# Altium schematic symbol library 常用集成电路.SchLib: 294 symbols (part 3 of 5)
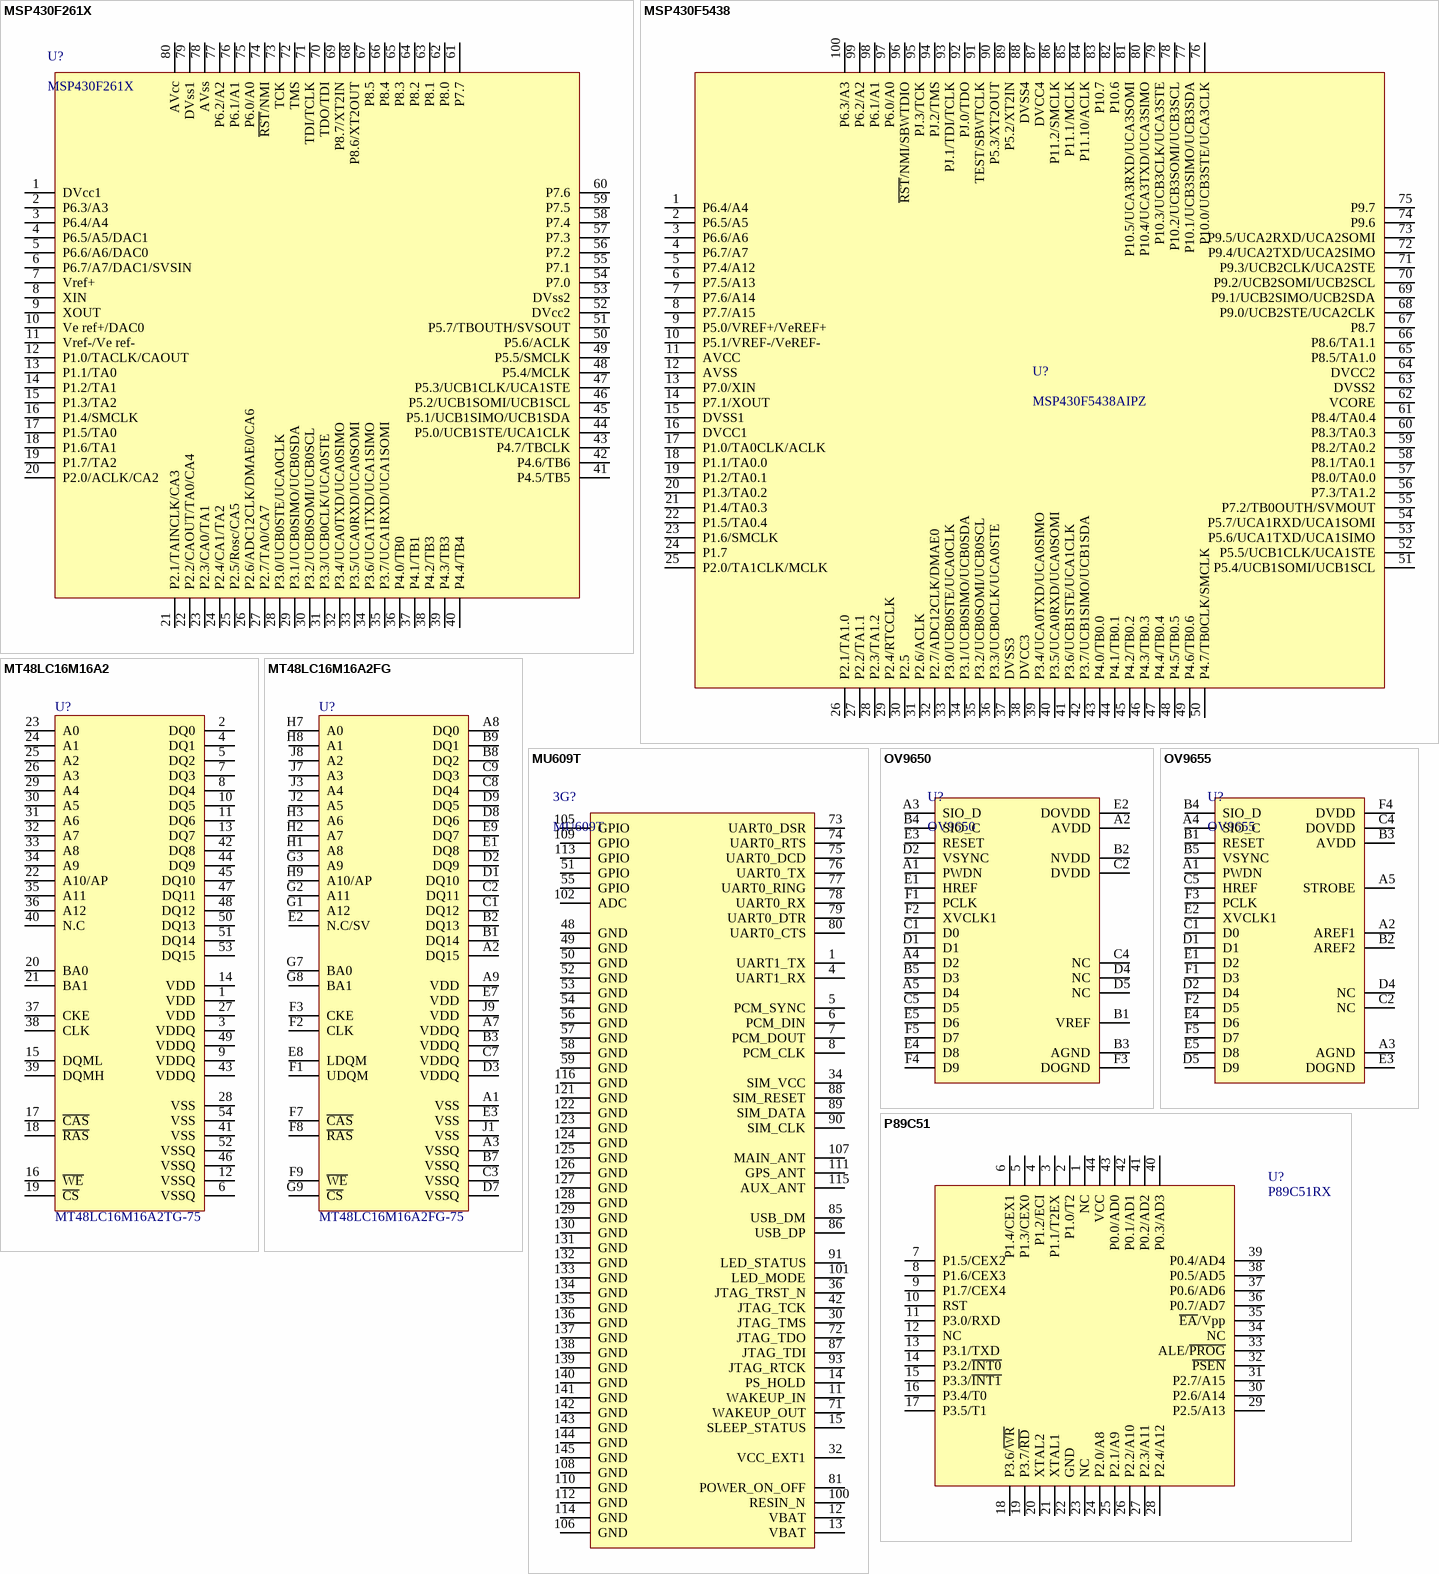
[diagram p40: symbols MSP430F261X to P89C51]

## MU609T
designator 3G?
华为车规3G模块
footprint MU609T (Footprint not found)
pins: 1 UART1_TX, 4 UART1_RX, 5 PCM_SYNC, 6 PCM_DIN, 7 PCM_DOUT, 8 PCM_CLK, 11 WAKEUP_IN, 12 VBAT, 13 VBAT, 14 PS_HOLD, 15 SLEEP_STATUS, 30 JTAG_TMS, 32 VCC_EXT1, 34 SIM_VCC, 36 JTAG_TRST_N, 42 JTAG_TCK, 48 GND, 49 GND, 50 GND, 51 GPIO, 52 GND, 53 GND, 54 GND, 55 GPIO, 56 GND, 57 GND, 58 GND, 59 GND, 71 WAKEUP_OUT, 72 JTAG_TDO, 73 UART0_DSR, 74 UART0_RTS, 75 UART0_DCD, 76 UART0_TX, 77 UART0_RING, 78 UART0_RX, 79 UART0_DTR, 80 UART0_CTS, 81 POWER_ON_OFF, 85 USB_DM, 86 USB_DP, 87 JTAG_TDI, 88 SIM_RESET, 89 SIM_DATA, 90 SIM_CLK, 91 LED_STATUS, 93 JTAG_RTCK, 100 RESIN_N, 101 LED_MODE, 102 ADC, 105 GPIO, 106 GND, 107 MAIN_ANT, 108 GND, 109 GPIO, 110 GND, 111 GPS_ANT, 112 GND, 113 GPIO, 114 GND, 115 AUX_ANT, 116 GND, 121 GND, 122 GND, 123 GND, 124 GND, 125 GND, 126 GND, 127 GND, 128 GND, 129 GND, 130 GND, 131 GND, 132 GND, 133 GND, 134 GND, 135 GND, 136 GND, 137 GND, 138 GND, 139 GND, 140 GND, 141 GND, 142 GND, 143 GND, 144 GND, 145 GND

## OV9650
designator U?
footprint BGA80P5095X5715-28 (BGA0.8X0.8)
pins: A1 PWDN, A2 AVDD, A3 SIO_D, A4 D2, A5 D4, B1 VREF, B2 NVDD, B3 AGND, B4 SIO_C, B5 D3, C1 D0, C2 DVDD, C4 NC, C5 D5, D1, D2 VSYNC, D4 NC, D5 NC, E1 HREF, E2 DOVDD, E3 RESET, E4 D8, E5 D6, F1 PCLK, F2 XVCLK1, F3 DOGND, F4 D9, F5 D7

## OV9655
designator U?
OV9655/OV9155
footprint BGA80P5145X6145-28 (BGA0.8X0.8)
pins: A1 PWDN, A2 AREF1, A3 AGND, A4 SIO_C, A5 STROBE, B1 RESET, B2 AREF2, B3 AVDD, B4 SIO_D, B5 VSYNC, C1 D0, C2 NC, C4 DOVDD, C5 HREF, D1, D2 D4, D4 NC, D5 D9, E1 D2, E2 XVCLK1, E3 DOGND, E4 D6, E5 D8, F1 D3, F2 D5, F3 PCLK, F4 DVDD, F5 D7

## P89C51
designator U?, comment P89C51RX
footprint PLCC-44AN (Leaded Chip Carrier, 44-Leads, Body 16.6x16.6mm, Pitch 1.27mm, IPC Medium Density)
pins: 1 NC, 2 P1.0/T2, 3 P1.1/T2EX, 4 P1.2/ECI, 5 P1.3/CEX0, 6 P1.4/CEX1, 7 P1.5/CEX2, 8 P1.6/CEX3, 9 P1.7/CEX4, 10 RST, 11 P3.0/RXD, 12 NC, 13 P3.1/TXD, 14 P3.2/~{INT0}, 15 P3.3/~{INT1}, 16 P3.4/T0, 17 P3.5/T1, 18 P3.6/~{WR}, 19 P3.7/~{RD}, 20 XTAL2, 21 XTAL1, 22 GND, 23 NC, 24 P2.0/A8, 25 P2.1/A9, 26 P2.2/A10, 27 P2.3/A11, 28 P2.4/A12, 29 P2.5/A13, 30 P2.6/A14, 31 P2.7/A15, 32 ~{PSEN}, 33 ALE/~{PROG}, 34 NC, 35 ~{EA}/Vpp, 36 P0.7/AD7, 37 P0.6/AD6, 38 P0.5/AD5, 39 P0.4/AD4, 40 P0.3/AD3, 41 P0.2/AD2, 42 P0.1/AD1, 43 P0.0/AD0, 44 VCC

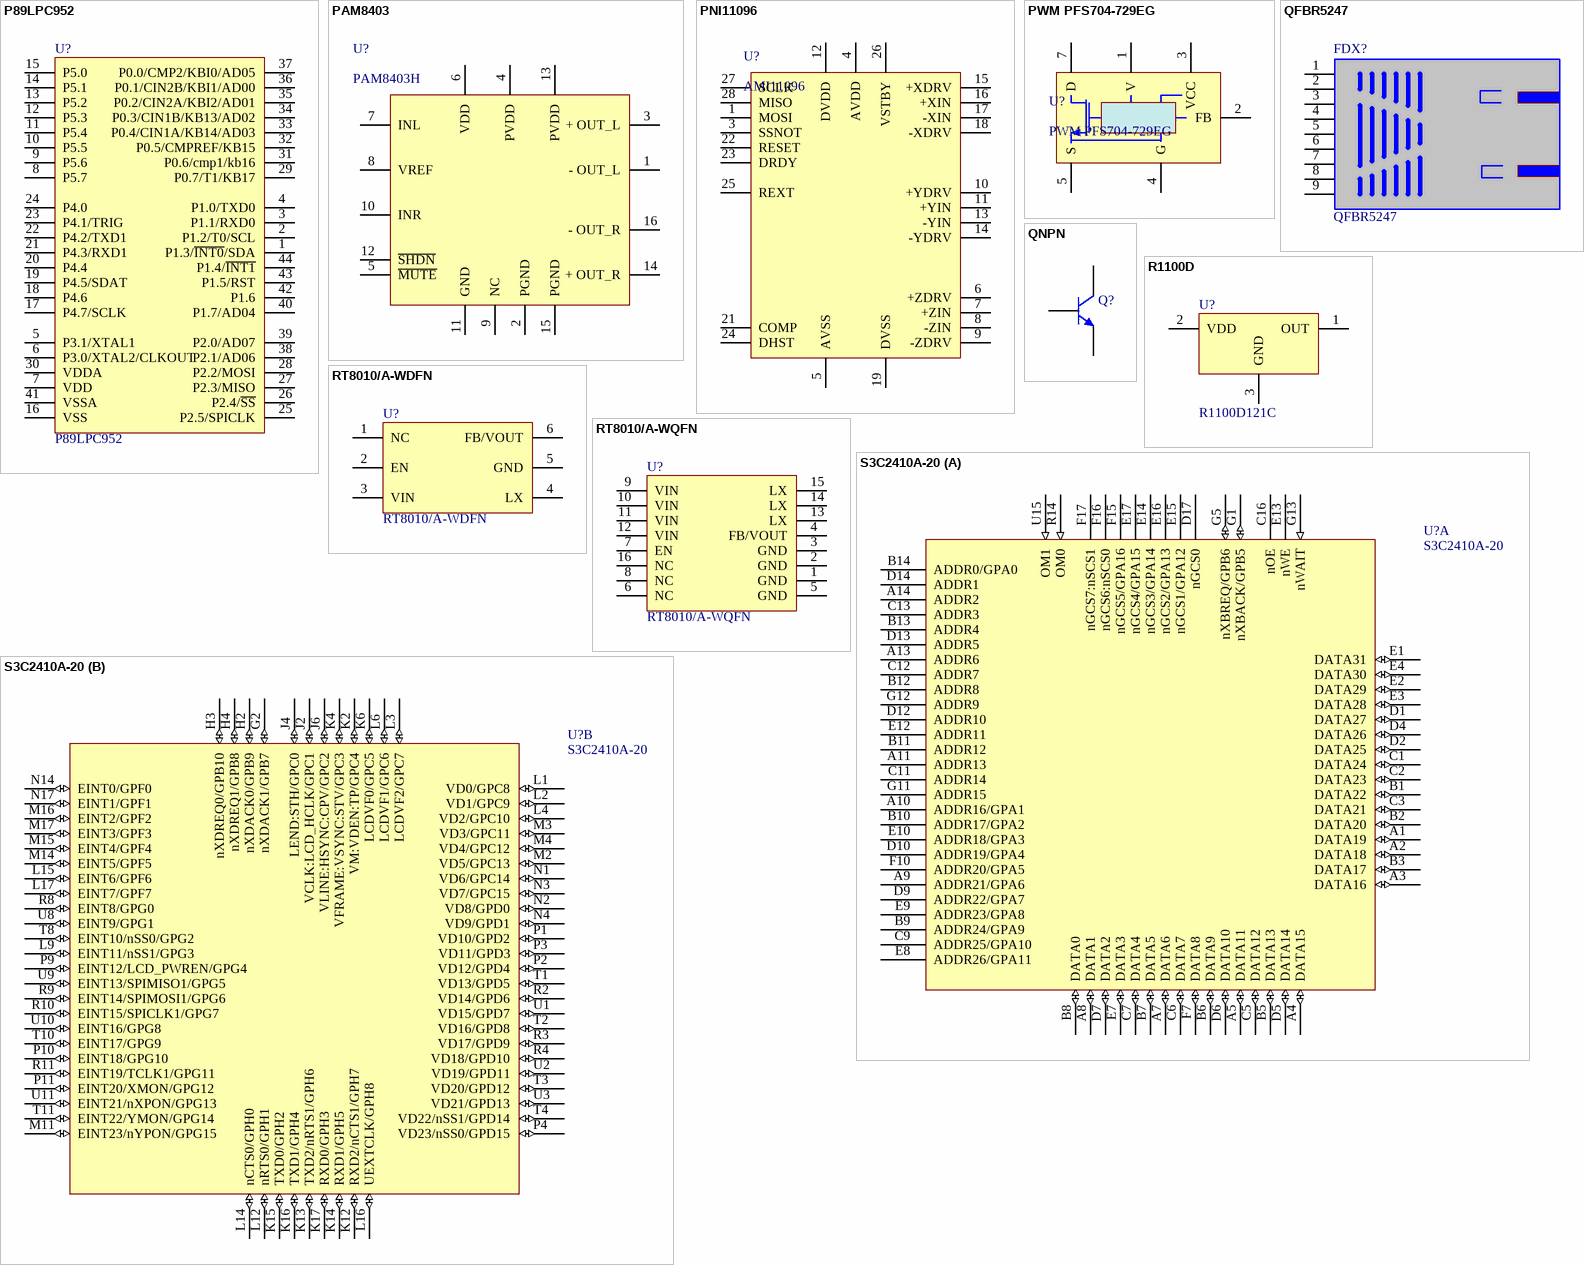
[diagram p16: symbols P89LPC952 to S3C2410A-20]

## P89LPC952
designator U?
footprint QFP80P1320X1320-44N (QFP, 44-Leads, Body 10x10mm, Pitch 0.8mm, IPC Medium Density)
pins: 1 P1.3/~{INT0}/SDA, 2 P1.2/T0/SCL, 3 P1.1/RXD0, 4 P1.0/TXD0, 5 P3.1/XTAL1, 6 P3.0/XTAL2/CLKOUT, 7 VDD, 8 P5.7, 9 P5.6, 10 P5.5, 11 P5.4, 12 P5.3, 13 P5.2, 14 P5.1, 15 P5.0, 16 VSS, 17 P4.7/SCLK, 18 P4.6, 19 P4.5/SDAT, 20 P4.4, 21 P4.3/RXD1, 22 P4.2/TXD1, 23 P4.1/TRIG, 24 P4.0, 25 P2.5/SPICLK, 26 P2.4/~{SS}, 27 P2.3/MISO, 28 P2.2/MOSI, 29 P0.7/T1/KB17, 30 VDDA, 31 P0.6/cmp1/kb16, 32 P0.5/CMPREF/KB15, 33 P0.4/CIN1A/KB14/AD03, 34 P0.3/CIN1B/KB13/AD02, 35 P0.2/CIN2A/KBI2/AD01, 36 P0.1/CIN2B/KBI1/AD00, 37 P0.0/CMP2/KBI0/AD05, 38 P2.1/AD06, 39 P2.0/AD07, 40 P1.7/AD04, 41 VSSA, 42 P1.6, 43 P1.5/RST, 44 P1.4/~{INT1}

## PAM8403
designator U?, comment PAM8403H
3W 5V 双声道D类功放
footprint SOIC127P600-16N (SOIC, 16-Leads, Body 9.9x3.9mm, Pitch 1.27mm, IPC Medium Density)
pins: 1 - OUT_L, 2 PGND, 3 + OUT_L, 4 PVDD, 5 ~{MUTE}, 6 VDD, 7 INL, 8 VREF, 9 NC, 10 INR, 11 GND, 12 ~{SHDN}, 13 PVDD, 14 + OUT_R, 15 PGND, 16 - OUT_R

## PNI11096
designator U?, comment AMI11096
X,Y,Z
footprint QFN50P500X500-28A (28-Pin Plastic Quad Flat No-Lead 0.5 mm Pitch)
pins: 1 MOSI, 2 NC hidden to GND, 3 SSNOT, 4 AVDD, 5 AVSS, 6 +ZDRV, 7 +ZIN, 8 -ZIN, 9 -ZDRV, 10 +YDRV, 11 +YIN, 12 DVDD, 13 -YIN, 14 -YDRV, 15 +XDRV, 16 +XIN, 17 -XIN, 18 -XDRV, 19 DVSS, 20 NC hidden to GND, 21 COMP, 22 RESET, 23 DRDY, 24 DHST, 25 REXT, 26 VSTBY, 27 SCLK, 28 MISO

## PWM PFS704-729EG
designator U?
开关电源升压IC
footprint eSIP-7G (Footprint not found)
pins: 1 V, 2 FB, 3 VCC, 4 G, 5 S, 7 D

## QFBR5247
designator FDX?
光纤收发模块
footprint FHx2_QFBR5247 (光纤模块)
footprint FH_QFBR5247 (光纤模块)
pins: 1 GNDR, 2 RD+, 3 RD-, 4 SD, 5 VCCR, 6 VCCT, 7 TD-, 8 TD+, 9 GNDT

## QNPN
designator Q?
NPN Bipolar Transistor; Published: 8-Jun-2000; LatestRevisionDate: 17-Jul-2002; LatestRevisionNote: Re-released for DXP Platform.; PackageReference: SOT-23B; Publisher: Altium Limited; Code_JEDEC: SOT-23
footprint SOT-23B (SOT-23; 3 Leads; Body 3.0 x 2.6 mm, inc. leads (LxW max))
simulation model QNPN (NPN)
signal-integrity model NPN
pins: 1 C, 2 B, 3 E

## R1100D
designator U?, comment R1100D121C
1.2V电源稳压集成电路
footprint SON1408-3 (R1100Dxx)
pins: 1 OUT, 2 VDD, 3 GND

## RT8010/A-WDFN
designator U?
1.5MHz,1A,High Efficiency PWM Step-Down DC/DC Converter
footprint DFN065-6 (2x2)
pins: 1 NC, 2 EN, 3 VIN, 4 LX, 5 GND, 6 FB/VOUT

## RT8010/A-WQFN
designator U?
1.5MHz,1A,High Efficiency PWM Step-Down DC/DC Converter
footprint QFN50P300X300-16W4N (QFN, 16-Leads, Body 3x3mm, Pitch 0.5mm, IPC Medium Density)
pins: 1 GND, 2 GND, 3 GND, 4 FB/VOUT, 5 GND, 6 NC, 7 EN, 8 NC, 9 VIN, 10 VIN, 11 VIN, 12 VIN, 13 LX, 14 LX, 15 LX, 16 NC

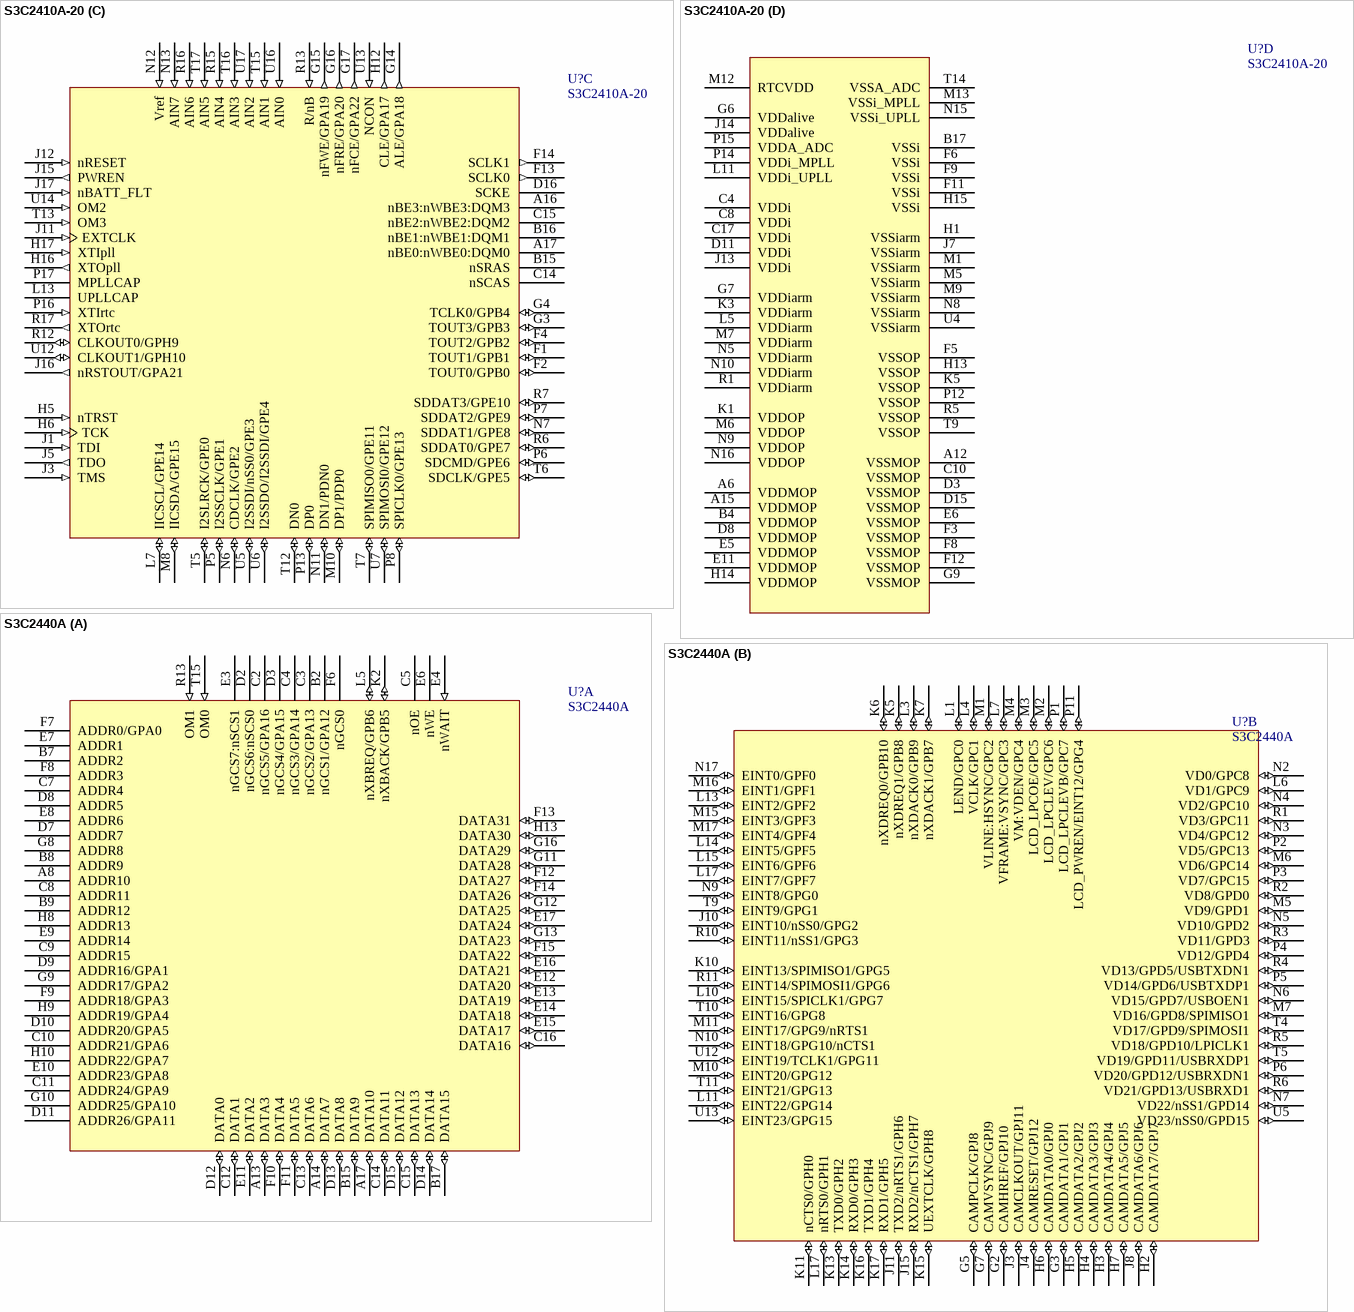
[diagram p17: symbols S3C2410A-20 to S3C2440A]

## S3C2410A-20
designator U?
32-Bit RISC Microprocessor, 200 MHz, 1.8V (Core), 3.3V (Memory and IO), 272-Pin FBGA; Published: 6-Oct-2005; LatestRevisionDate: 13-Apr-2006; LatestRevisionNote: IPC-7351 Footprint Added.; DatasheetVersion: rev1.0, Mar-2004; PackageVersion: Mar-2004; PackageReference: FBGA272; Publisher: Altium Limited; PackageDescription: 272-Ball Ball Grid Array 0.8 mm Pitch; ComponentLink1Description: Manufacturer Link; ComponentLink1URL: http://www.samsung.com; ComponentLink2Description: Datasheet; ComponentLink2URL: http://www.samsung.com/Products/Semiconductor/SystemLSI/MobileSolutions/MobileASSP/MobileComputing/S3C2410/um_s3c2410a_manual_r10.pdf
footprint FBGA272 (272-Ball Ball Grid Array 0.8 mm Pitch)
3D model S3C2410A-FBGA272 (PCB3D Model)
part A pins: A1 DATA19 (io) "Data Bus", A2 DATA18 (io) "Data Bus", A3 DATA16 (io) "Data Bus", A4 DATA15 (io) "Data Bus", A5 DATA11 (io) "Data Bus", A7 DATA6 (io) "Data Bus", A8 DATA1 (io) "Data Bus", A9 ADDR21/GPA6 (hiz) "Address Bus/General Output port", A10 ADDR16/GPA1 (hiz) "Address Bus/General Output port", A11 ADDR13 (hiz) "Address Bus", A13 ADDR6 (hiz) "Address Bus", A14 ADDR2 (hiz) "Address Bus", B1 DATA22 (io) "Data Bus", B2 DATA20 (io) "Data Bus", B3 DATA17 (io) "Data Bus", B5 DATA13 (io) "Data Bus", B6 DATA9 (io) "Data Bus", B7 DATA5 (io) "Data Bus", B8 DATA0 (io) "Data Bus", B9 ADDR24/GPA9 (hiz) "Address Bus/General Output port", B10 ADDR17/GPA2 (hiz) "Address Bus/General Output port", B11 ADDR12 (hiz) "Address Bus", B12 ADDR8 (hiz) "Address Bus", B13 ADDR4 (hiz) "Address Bus", B14 ADDR0/GPA0 (hiz) "Address Bus/General Output port", C1 DATA24 (io) "Data Bus", C2 DATA23 (io) "Data Bus", C3 DATA21 (io) "Data Bus", C5 DATA12 (io) "Data Bus", C6 DATA7 (io) "Data Bus", C7 DATA4 (io) "Data Bus", C9 ADDR25/GPA10 (hiz) "Address Bus/General Output port", C11 ADDR14 (hiz) "Address Bus", C12 ADDR7 (hiz) "Address Bus", C13 ADDR3 (hiz) "Address Bus", C16 nOE (hiz) "Output Enable", D1 DATA27 (io) "Data Bus", D2 DATA25 (io) "Data Bus", D4 DATA26 (io) "Data Bus", D5 DATA14 (io) "Data Bus", D6 DATA10 (io) "Data Bus", D7 DATA2 (io) "Data Bus", D9 ADDR22/GPA7 (hiz) "Address Bus/General Output port", D10 ADDR19/GPA4 (hiz) "Address Bus/General Output port", D12 ADDR10 (hiz) "Address Bus", D13 ADDR5 (hiz) "Address Bus", D14 ADDR1 (hiz) "Address Bus", D17 nGCS0 (hiz) "General Chip Select", E1 DATA31 (io) "Data Bus", E2 DATA29 (io) "Data Bus", E3 DATA28 (io) "Data Bus", E4 DATA30 (io) "Data Bus", E7 DATA3 (io) "Data Bus", E8 ADDR26/GPA11 (hiz) "Address Bus/General Output port", E9 ADDR23/GPA8 (hiz) "Address Bus/General Output port", E10 ADDR18/GPA3 (hiz) "Address Bus/General Output port", E12 ADDR11 (hiz) "Address Bus", E13 nWE (hiz) "Write Enable", E14 nGCS3/GPA14 (hiz) "General Chip Select/General Output port", E15 nGCS1/GPA12 (hiz) "General Chip Select/General Output port", E16 nGCS2/GPA13 (hiz) "General Chip Select/General Output port", E17 nGCS4/GPA15 (hiz) "General Chip Select/General Output port", F7 DATA8 (io) "Data Bus", F10 ADDR20/GPA5 (hiz) "Address Bus/General Output port", F15 nGCS5/GPA16 (hiz) "General Chip Select/General Output port", F16 nGCS6:nSCS0 (hiz) "General Chip Select:SDRAM Chip Select", F17 nGCS7:nSCS1 (hiz) "General Chip Select:SDRAM Chip Select", G1 nXBACK/GPB5 (io) "Bus Hold Acknowledge/General IO port", G5 nXBREQ/GPB6 (io) "Bus Hold Request/General IO port", G11 ADDR15 (hiz) "Address Bus", G12 ADDR9 (hiz) "Address Bus", G13 nWAIT (in) "Requests to prolong current bus cycle", R14 OM0 (in) "OM sets S3C2410A in the TEST mode", U15 OM1 (in) "OM sets S3C2410A in the TEST mode"
part B pins: G2 nXDACK1/GPB7 (io) "External DMA acknowledge/General IO port", H2 nXDACK0/GPB9 (io) "External DMA acknowledge/General IO port", H3 nXDREQ0/GPB10 (io) "External DMA request/General IO port", H4 nXDREQ1/GPB8 (io) "External DMA request/General IO port", J2 VCLK:LCD_HCLK/GPC1 (io) "LCD clock signal:SEC TFT LCD panel control signal/General IO port", J4 LEND:STH/GPC0 (io) "Line End signal:SEC TFT LCD panel control signal/General IO port", J6 VLINE:HSYNC:CPV/GPC2 (io) "LCD line signal:Horizontal synchronous signal:SEC TFT LCD panel control signal/General IO port", K2 VM:VDEN:TP/GPC4 (io) "VM alternates the polarity of the row and column voltage:Data enable signal:SEC TFT LCD panel control signal/General IO port", K4 VFRAME:VSYNC:STV/GPC3 (io) "LCD Frame signal:Vertical synchronous signal:SEC TFT LCD panel control signal/General IO port", K6 LCDVF0/GPC5 (io) "Timing control signal for specific TFT LCD/General IO port", K12 RXD2/nCTS1/GPH7 (io) "UART receives data input/UART clear to send input signal/General IO port", K13 TXD2/nRTS1/GPH6 (io) "UART transmits data output/UART request to send output signal/General IO port", K14 RXD1/GPH5 (io) "UART receives data input/General IO port", K15 TXD0/GPH2 (io) "UART transmits data output/General IO port", K16 TXD1/GPH4 (io) "UART transmits data output/General IO port", K17 RXD0/GPH3 (io) "UART receives data input/General IO port", L1 VD0/GPC8 (io) "LCD Data Bus/General IO port", L2 VD1/GPC9 (io) "LCD Data Bus/General IO port", L3 LCDVF2/GPC7 (io) "Timing control signal for specific TFT LCD/General IO port", L4 VD2/GPC10 (io) "LCD Data Bus/General IO port", L6 LCDVF1/GPC6 (io) "Timing control signal for specific TFT LCD/General IO port", L9 EINT11/nSS1/GPG3 (io) "External Interrupt request/SPI chip select (only for slave mode)/General IO port", L12 nRTS0/GPH1 (io) "UART request to send output signal/General IO port", L14 nCTS0/GPH0 (io) "UART clear to send input signal/General IO port", L15 EINT6/GPF6 (io) "External Interrupt request/General IO port", L16 UEXTCLK/GPH8 (io) "UART clock signal/General IO port", L17 EINT7/GPF7 (io) "External Interrupt request/General IO port", M2 VD5/GPC13 (io) "LCD Data Bus/General IO port", M3 VD3/GPC11 (io) "LCD Data Bus/General IO port", M4 VD4/GPC12 (io) "LCD Data Bus/General IO port", M11 EINT23/nYPON/GPG15 (io) "External Interrupt request/Plus Y-axis on-off control signal/General IO port", M14 EINT5/GPF5 (io) "External Interrupt request/General IO port", M15 EINT4/GPF4 (io) "External Interrupt request/General IO port", M16 EINT2/GPF2 (io) "External Interrupt request/General IO port", M17 EINT3/GPF3 (io) "External Interrupt request/General IO port", N1 VD6/GPC14 (io) "LCD Data Bus/General IO port", N2 VD8/GPD0 (io) "LCD Data Bus/General IO port", N3 VD7/GPC15 (io) "LCD Data Bus/General IO port", N4 VD9/GPD1 (io) "LCD Data Bus/General IO port", N14 EINT0/GPF0 (io) "External Interrupt request/General IO port", N17 EINT1/GPF1 (io) "External Interrupt request/General IO port", P1 VD10/GPD2 (io) "LCD Data Bus/General IO port", P2 VD12/GPD4 (io) "LCD Data Bus/General IO port", P3 VD11/GPD3 (io) "LCD Data Bus/General IO port", P4 VD23/nSS0/GPD15 (io) "LCD Data Bus/SPI chip select (only for slave mode)/General IO port", P9 EINT12/LCD_PWREN/GPG4 (io) "External Interrupt request/LCD panel power enable control signal/General IO port", P10 EINT18/GPG10 (io) "External Interrupt request/General IO port", P11 EINT20/XMON/GPG12 (io) "External Interrupt request/Minus X-axis on-off control signal/General IO port", R2 VD14/GPD6 (io) "LCD Data Bus/General IO port", R3 VD17/GPD9 (io) "LCD Data Bus/General IO port", R4 VD18/GPD10 (io) "LCD Data Bus/General IO port", R8 EINT8/GPG0 (io) "External Interrupt request/General IO port", R9 EINT14/SPIMOSI1/GPG6 (io) "External Interrupt request/Master data output line when SPI is in master mode/General IO port", R10 EINT15/SPICLK1/GPG7 (io) "External Interrupt request/SPI clock/General IO port", R11 EINT19/TCLK1/GPG11 (io) "External Interrupt request/External timer clock input/General IO port", T1 VD13/GPD5 (io) "LCD Data Bus/General IO port", T2 VD16/GPD8 (io) "LCD Data Bus/General IO port", T3 VD20/GPD12 (io) "LCD Data Bus/General IO port", T4 VD22/nSS1/GPD14 (io) "LCD Data Bus/SPI chip select (only for slave mode)/General IO port", T8 EINT10/nSS0/GPG2 (io) "External Interrupt request/SPI chip select (only for slave mode)/General IO port", T10 EINT17/GPG9 (io) "External Interrupt request/General IO port", T11 EINT22/YMON/GPG14 (io) "External Interrupt request/Minus Y-axis on-off control signal/General IO port", U1 VD15/GPD7 (io) "LCD Data Bus/General IO port", U2 VD19/GPD11 (io) "LCD Data Bus/General IO port", U3 VD21/GPD13 (io) "LCD Data Bus/General IO port", U8 EINT9/GPG1 (io) "External Interrupt request/General IO port", U9 EINT13/SPIMISO1/GPG5 (io) "External Interrupt request/Master data input line when SPI is in master mode/General IO port", U10 EINT16/GPG8 (io) "External Interrupt request/General IO port", U11 EINT21/nXPON/GPG13 (io) "External Interrupt request/Plus X-axis on-off control signal/General IO port"
part C pins: A16 nBE3:nWBE3:DQM3 (hiz) "Upper Byte/Lower Byte Enable:Write Byte Enable:SDRAM Data Mask", A17 nBE0:nWBE0:DQM0 (hiz) "Upper Byte/Lower Byte Enable:Write Byte Enable:SDRAM Data Mask", B15 nSRAS (hiz) "SDRAM Row Address Strobe", B16 nBE1:nWBE1:DQM1 (hiz) "Upper Byte/Lower Byte Enable:Write Byte Enable:SDRAM Data Mask", C14 nSCAS (hiz) "SDRAM Column Address Strobe", C15 nBE2:nWBE2:DQM2 (hiz) "Upper Byte/Lower Byte Enable:Write Byte Enable:SDRAM Data Mask", D16 SCKE (hiz) "SDRAM Clock Enable", F1 TOUT1/GPB1 (io) "Timer Output/General IO port", F2 TOUT0/GPB0 (io) "Timer Output/General IO port", F4 TOUT2/GPB2 (io) "Timer Output/General IO port", F13 SCLK0 (out) "SDRAM Clock", F14 SCLK1 (out) "SDRAM Clock", G3 TOUT3/GPB3 (io) "Timer Output/General IO port", G4 TCLK0/GPB4 (io) "External timer clock input/General IO port", G14 ALE/GPA18 (out) "Address Latch Enable/General Output port", G15 nFWE/GPA19 (out) "NAND Flash Write Enable/General Output port", G16 nFRE/GPA20 (out) "NAND Flash Read Enable/General Output port", G17 nFCE/GPA22 (out) "NAND Flash Chip Enable/General Output port", H5 nTRST (in) "TAP Controller Reset", H6 TCK (in) "TAP Controller Clock", H12 CLE/GPA17 (out) "Command Latch Enable/General Output port", H16 XTOpll (out) "Crystal Output for internal oscillator circuit", H17 XTIpll (in) "Crystal Input for internal oscillator circuit", J1 TDI (in) "TAP Controller Data Input", J3 TMS (in) "TAP Controller Mode Select", J5 TDO (out) "TAP Controller Data Output", J11 EXTCLK (in) "External clock source", J12 nRESET (in) "Reset", J15 PWREN (out) "2.0V core power on-off control signal", J16 nRSTOUT/GPA21 (out) "Reset control for external device/General Output port", J17 nBATT_FLT (in) "Probe for battery state", L7 IICSCL/GPE14 (io) "IIC-bus clock/General IO port", L13 UPLLCAP "Loop filter capacitor for USB clock", M8 IICSDA/GPE15 (io) "IIC-bus data/General IO port", M10 DP1/PDP0 (io) "DATA (+) from USB host/DATA (+) for USB peripheral", N6 CDCLK/GPE2 (io) "CODEC system clock/General IO port", N7 SDDAT1/GPE8 (io) "SD receive/transmit data/General IO port", N11 DN1/PDN0 (io) "DATA (? from USB host/DATA (? for USB peripheral", N12 Vref (in) "ADC Vref", N13 AIN7 (in) "ADC Input", P5 I2SSCLK/GPE1 (io) "IIS-bus serial clock/General IO port", P6 SDCMD/GPE6 (io) "SD receive response/ transmit command/General IO port", P7 SDDAT2/GPE9 (io) "SD receive/transmit data/General IO port", P8 SPICLK0/GPE13 (io) "SPI clock/General IO port", P13 DP0 (io) "DATA (+) from USB host", P16 XTIrtc (in) "32.768 kHz crystal input for RTC", P17 MPLLCAP "Loop filter capacitor for main clock", R6 SDDAT0/GPE7 (io) "SD receive/transmit data/General IO port", R7 SDDAT3/GPE10 (io) "SD receive/transmit data/General IO port", R12 CLKOUT0/GPH9 (io) "Clock output signal/General IO port", R13 R/nB (in) "NAND Flash Ready/Busy", R15 AIN4 (in) "ADC Input", R16 AIN6 (in) "ADC Input", R17 XTOrtc (out) "32.768 kHz crystal output for RTC", T5 I2SLRCK/GPE0 (io) "IIS-bus channel select clock/General IO port", T6 SDCLK/GPE5 (io) "SD clock/General IO port", T7 SPIMISO0/GPE11 (io) "Master data input line when SPI is in master mode/General IO port", T12 DN0 (io) "DATA (? from USB host", T13 OM3 (in) "OM determines how the clock is made", T15 AIN1 (in) "ADC Input", T16 AIN3 (in) "ADC Input", T17 AIN5 (in) "ADC Input", U5 I2SSDI/nSS0/GPE3 (io) "IIS-bus serial data input/SPI chip select (only for slave mode)/General IO port", U6 I2SSDO/I2SSDI/GPE4 (io) "IIS-bus serial data output/IIS-bus serial data input/General IO port", U7 SPIMOSI0/GPE12 (io) "Master data output line when SPI is in master mode/General IO port", U12 CLKOUT1/GPH10 (io) "Clock output signal/General IO port", U13 NCON (in) "NAND Flash Configuration", U14 OM2 (in) "OM determines how the clock is made", U16 AIN0 (in) "ADC Input", U17 AIN2 (in) "ADC Input"
part D pins: A6 VDDMOP (power) "Memory I/O VDD", A12 VSSMOP (power) "Memory I/O VSS", A15 VDDMOP (power) "Memory I/O VDD", B4 VDDMOP (power) "Memory I/O VDD", B17 VSSi (power) "Core Logic VSS", C4 VDDi (power) "Core Logic VDD for CPU", C8 VDDi (power) "Core Logic VDD for CPU", C10 VSSMOP (power) "Memory I/O VSS", C17 VDDi (power) "Core Logic VDD for CPU", D3 VSSMOP (power) "Memory I/O VSS", D8 VDDMOP (power) "Memory I/O VDD", D11 VDDi (power) "Core Logic VDD for CPU", D15 VSSMOP (power) "Memory I/O VSS", E5 VDDMOP (power) "Memory I/O VDD", E6 VSSMOP (power) "Memory I/O VSS", E11 VDDMOP (power) "Memory I/O VDD", F3 VSSMOP (power) "Memory I/O VSS", F5 VSSOP (power) "I/O port VSS", F6 VSSi (power) "Core Logic VSS", F8 VSSMOP (power) "Memory I/O VSS", F9 VSSi (power) "Core Logic VSS", F11 VSSi (power) "Core Logic VSS", F12 VSSMOP (power) "Memory I/O VSS", G6 VDDalive (power) "Reset block and port status register VDD", G7 VDDiarm (power) "Core Logic VDD for CPU", G9 VSSMOP (power) "Memory I/O VSS", H1 VSSiarm (power) "Core Logic VSS", H13 VSSOP (power) "I/O port VSS", H14 VDDMOP (power) "Memory I/O VDD", H15 VSSi (power) "Core Logic VSS", J7 VSSiarm (power) "Core Logic VSS", J13 VDDi (power) "Core Logic VDD for CPU", J14 VDDalive (power) "Reset block and port status register VDD", K1 VDDOP (power) "I/O port VDD (3.3V)", K3 VDDiarm (power) "Core Logic VDD for CPU", K5 VSSOP (power) "I/O port VSS", L5 VDDiarm (power) "Core Logic VDD for CPU", L11 VDDi_UPLL (power) "UPLL analog and digital VDD", M1 VSSiarm (power) "Core Logic VSS", M5 VSSiarm (power) "Core Logic VSS", M6 VDDOP (power) "I/O port VDD (3.3V)", M7 VDDiarm (power) "Core Logic VDD for CPU", M9 VSSiarm (power) "Core Logic VSS", M12 RTCVDD (power) "RTC VDD (1.8 V, Not support 2.0 and 3.3V)", M13 VSSi_MPLL (power) "MPLL analog and digital VSS", N5 VDDiarm (power) "Core Logic VDD for CPU", N8 VSSiarm (power) "Core Logic VSS", N9 VDDOP (power) "I/O port VDD (3.3V)", N10 VDDiarm (power) "Core Logic VDD for CPU", N15 VSSi_UPLL (power) "UPLL analog and digital VSS", N16 VDDOP (power) "I/O port VDD (3.3V)", P12 VSSOP (power) "I/O port VSS", P14 VDDi_MPLL (power) "MPLL analog and digital VDD", P15 VDDA_ADC (power) "ADC VDD (3.3V)", R1 VDDiarm (power) "Core Logic VDD for CPU", R5 VSSOP (power) "I/O port VSS", T9 VSSOP (power) "I/O port VSS", T14 VSSA_ADC (power) "ADC VSS", U4 VSSiarm (power) "Core Logic VSS"

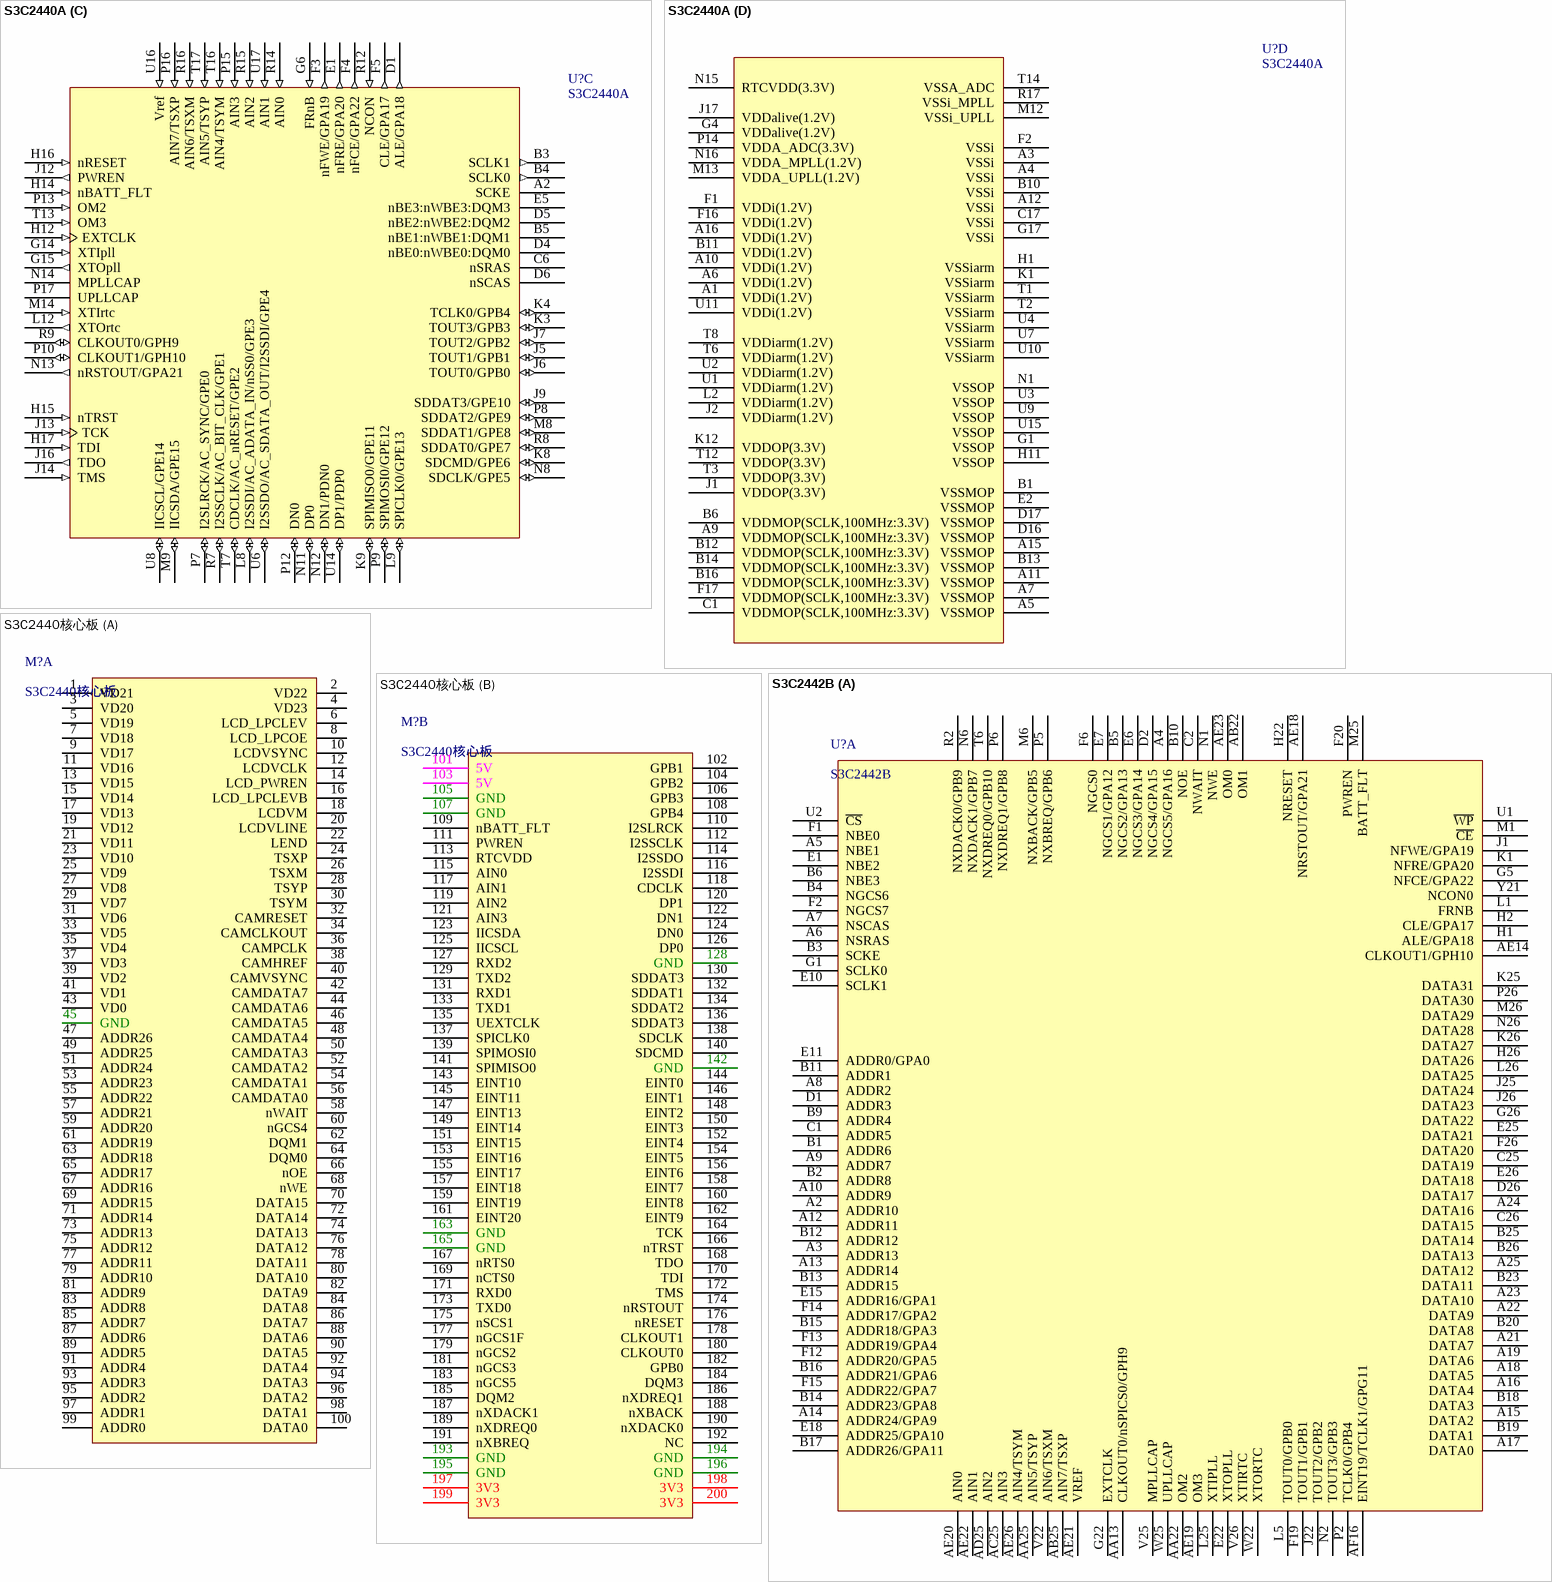
[diagram p18: symbols S3C2440A to S3C2442B]

## S3C2440A
designator U?
32-Bit RISC Microprocessor, 200 MHz, 1.8V (Core), 3.3V (Memory and IO), 272-Pin FBGA; Published: 6-Oct-2005; LatestRevisionDate: 13-Apr-2006; LatestRevisionNote: IPC-7351 Footprint Added.; DatasheetVersion: rev1.0, Mar-2004; PackageVersion: Mar-2004; PackageReference: FBGA272; Publisher: Altium Limited; PackageDescription: 272-Ball Ball Grid Array 0.8 mm Pitch; ComponentLink1Description: Manufacturer Link; ComponentLink1URL: http://www.samsung.com; ComponentLink2Description: Datasheet; ComponentLink2URL: http://www.samsung.com/Products/Semiconductor/SystemLSI/MobileSolutions/MobileASSP/MobileComputing/S3C2410/um_s3c2410a_manual_r10.pdf
footprint BGA80P17X17-289 (289-Ball Ball Grid Array 0.8 mm Pitch)
part A pins: A8 ADDR10 (hiz) "Address Bus", A13 DATA3 (io) "Data Bus", A14 DATA7 (io) "Data Bus", A17 DATA10 (io) "Data Bus", B2 nGCS1/GPA12 (hiz) "General Chip Select/General Output port", B7 ADDR2 (hiz) "Address Bus", B8 ADDR9 (hiz) "Address Bus", B9 ADDR12 (hiz) "Address Bus", B15 DATA9 (io) "Data Bus", B17 DATA15 (io) "Data Bus", C2 nGCS5/GPA16 (hiz) "General Chip Select/General Output port", C3 nGCS2/GPA13 (hiz) "General Chip Select/General Output port", C4 nGCS3/GPA14 (hiz) "General Chip Select/General Output port", C5 nOE (hiz) "Output Enable", C7 ADDR4 (hiz) "Address Bus", C8 ADDR11 (hiz) "Address Bus", C9 ADDR15 (hiz) "Address Bus", C10 ADDR21/GPA6 (hiz) "Address Bus/General Output port", C11 ADDR24/GPA9 (hiz) "Address Bus/General Output port", C12 DATA1 (io) "Data Bus", C13 DATA6 (io) "Data Bus", C14 DATA11 (io) "Data Bus", C15 DATA13 (io) "Data Bus", C16 DATA16 (io) "Data Bus", D2 nGCS6:nSCS0 (hiz) "General Chip Select:SDRAM Chip Select", D3 nGCS4/GPA15 (hiz) "General Chip Select/General Output port", D7 ADDR7 (hiz) "Address Bus", D8 ADDR5 (hiz) "Address Bus", D9 ADDR16/GPA1 (hiz) "Address Bus/General Output port", D10 ADDR20/GPA5 (hiz) "Address Bus/General Output port", D11 ADDR26/GPA11 (hiz) "Address Bus/General Output port", D12 DATA0 (io) "Data Bus", D13 DATA8 (io) "Data Bus", D14 DATA14 (io) "Data Bus", D15 DATA12 (io) "Data Bus", E3 nGCS7:nSCS1 (hiz) "General Chip Select:SDRAM Chip Select", E4 nWAIT (in) "Requests to prolong current bus cycle", E6 nWE (hiz) "Write Enable", E7 ADDR1 (hiz) "Address Bus", E8 ADDR6 (hiz) "Address Bus", E9 ADDR14 (hiz) "Address Bus", E10 ADDR23/GPA8 (hiz) "Address Bus/General Output port", E11 DATA2 (io) "Data Bus", E12 DATA20 (io) "Data Bus", E13 DATA19 (io) "Data Bus", E14 DATA18 (io) "Data Bus", E15 DATA17 (io) "Data Bus", E16 DATA21 (io) "Data Bus", E17 DATA24 (io) "Data Bus", F6 nGCS0 (hiz) "General Chip Select", F7 ADDR0/GPA0 (hiz) "Address Bus/General Output port", F8 ADDR3 (hiz) "Address Bus", F9 ADDR18/GPA3 (hiz) "Address Bus/General Output port", F10 DATA4 (io) "Data Bus", F11 DATA5 (io) "Data Bus", F12 DATA27 (io) "Data Bus", F13 DATA31 (io) "Data Bus", F14 DATA26 (io) "Data Bus", F15 DATA22 (io) "Data Bus", G8 ADDR8 (hiz) "Address Bus", G9 ADDR17/GPA2 (hiz) "Address Bus/General Output port", G10 ADDR25/GPA10 (hiz) "Address Bus/General Output port", G11 DATA28 (io) "Data Bus", G12 DATA25 (io) "Data Bus", G13 DATA23 (io) "Data Bus", G16 DATA29 (io) "Data Bus", H8 ADDR13 (hiz) "Address Bus", H9 ADDR19/GPA4 (hiz) "Address Bus/General Output port", H10 ADDR22/GPA7 (hiz) "Address Bus/General Output port", H13 DATA30 (io) "Data Bus", K2 nXBACK/GPB5 (io) "Bus Hold Acknowledge/General IO port", L5 nXBREQ/GPB6 (io) "Bus Hold Request/General IO port", R13 OM1 (in) "OM sets S3C2410A in the TEST mode", T15 OM0 (in) "OM sets S3C2410A in the TEST mode"
part B pins: G2 CAMHREF/GPJ10 (io), G3 CAMDATA1/GPJ1 (io), G5 CAMPCLK/GPJ8 (io), G7 CAMVSYNC/GPJ9 (io), H2 CAMDATA7/GPJ7 (io), H3 CAMDATA4/GPJ4 (io), H4 CAMDATA3/GPJ3 (io), H5 CAMDATA2/GPJ2 (io), H6 CAMDATA0/GPJ0 (io), H7 CAMDATA5/GPJ5 (io), J3 CAMCLKOUT/GPJ11 (io), J4 CAMRESET/GPJ12 (io), J8 CAMDATA6/GPJ6 (io), J10 EINT10/nSS0/GPG2 (io) "External Interrupt request/SPI chip select (only for slave mode)/General IO port", J11 TXD2/nRTS1/GPH6 (io) "UART transmits data output/UART request to send output signal/General IO port", J15 RXD2/nCTS1/GPH7 (io) "UART receives data input/UART clear to send input signal/General IO port", K5 nXDREQ1/GPB8 (io) "External DMA request/General IO port", K6 nXDREQ0/GPB10 (io) "External DMA request/General IO port", K7 nXDACK1/GPB7 (io) "External DMA acknowledge/General IO port", K10 EINT13/SPIMISO1/GPG5 (io) "External Interrupt request/Master data input line when SPI is in master mode/General IO port", K11 nCTS0/GPH0 (io) "UART clear to send input signal/General IO port", K13 TXD0/GPH2 (io) "UART transmits data output/General IO port", K14 RXD0/GPH3 (io) "UART receives data input/General IO port", K15 UEXTCLK/GPH8 (io) "UART clock signal/General IO port", K16 TXD1/GPH4 (io) "UART transmits data output/General IO port", K17 RXD1/GPH5 (io) "UART receives data input/General IO port", L1 LEND/GPC0 (io) "Line End signal:SEC TFT LCD panel control signal/General IO port", L3 nXDACK0/GPB9 (io) "External DMA acknowledge/General IO port", L4 VCLK/GPC1 (io) "LCD clock signal:SEC TFT LCD panel control signal/General IO port", L6 VD1/GPC9 (io) "LCD Data Bus/General IO port", L7 VFRAME:VSYNC/GPC3 (io) "LCD Frame signal:Vertical synchronous signal:SEC TFT LCD panel control signal/General IO port", L10 EINT15/SPICLK1/GPG7 (io) "External Interrupt request/SPI clock/General IO port", L11 EINT22/GPG14 (io) "External Interrupt request/Minus Y-axis on-off control signal/General IO port", L13 EINT2/GPF2 (io) "External Interrupt request/General IO port", L14 EINT5/GPF5 (io) "External Interrupt request/General IO port", L15 EINT6/GPF6 (io) "External Interrupt request/General IO port", L17 EINT7/GPF7 (io) "External Interrupt request/General IO port", L17 nRTS0/GPH1 (io) "UART request to send output signal/General IO port", M1 VLINE:HSYNC/GPC2 (io) "LCD line signal:Horizontal synchronous signal:SEC TFT LCD panel control signal/General IO port", M2 LCD_LPCLEV/GPC6 (io) "Timing control signal for specific TFT LCD/General IO port", M3 LCD_LPCOE/GPC5 (io) "Timing control signal for specific TFT LCD/General IO port", M4 VM:VDEN/GPC4 (io) "VM alternates the polarity of the row and column voltage:Data enable signal:SEC TFT LCD panel control signal/General IO port", M5 VD9/GPD1 (io) "LCD Data Bus/General IO port", M6 VD6/GPC14 (io) "LCD Data Bus/General IO port", M7 VD16/GPD8/SPIMISO1 (io) "LCD Data Bus/General IO port", M10 EINT20/GPG12 (io) "External Interrupt request/Minus X-axis on-off control signal/General IO port", M11 EINT17/GPG9/nRTS1 (io) "External Interrupt request/General IO port", M15 EINT3/GPF3 (io) "External Interrupt request/General IO port", M16 EINT1/GPF1 (io) "External Interrupt request/General IO port", M17 EINT4/GPF4 (io) "External Interrupt request/General IO port", N2 VD0/GPC8 (io) "LCD Data Bus/General IO port", N3 VD4/GPC12 (io) "LCD Data Bus/General IO port", N4 VD2/GPC10 (io) "LCD Data Bus/General IO port", N5 VD10/GPD2 (io) "LCD Data Bus/General IO port", N6 VD15/GPD7/USBOEN1 (io) "LCD Data Bus/General IO port", N7 VD22/nSS1/GPD14 (io) "LCD Data Bus/SPI chip select (only for slave mode)/General IO port", N9 EINT8/GPG0 (io) "External Interrupt request/General IO port", N10 EINT18/GPG10/nCTS1 (io) "External Interrupt request/General IO port", N17 EINT0/GPF0 (io) "External Interrupt request/General IO port", P1 LCD_LPCLEVB/GPC7 (io) "Timing control signal for specific TFT LCD/General IO port", P2 VD5/GPC13 (io) "LCD Data Bus/General IO port", P3 VD7/GPC15 (io) "LCD Data Bus/General IO port", P4 VD12/GPD4 (io) "LCD Data Bus/General IO port", P5 VD14/GPD6/USBTXDP1 (io) "LCD Data Bus/General IO port", P6 VD20/GPD12/USBRXDN1 (io) "LCD Data Bus/General IO port", P11 LCD_PWREN/EINT12/GPG4 (io) "External Interrupt request/LCD panel power enable control signal/General IO port", R1 VD3/GPC11 (io) "LCD Data Bus/General IO port", R2 VD8/GPD0 (io) "LCD Data Bus/General IO port", R3 VD11/GPD3 (io) "LCD Data Bus/General IO port", R4 VD13/GPD5/USBTXDN1 (io) "LCD Data Bus/General IO port", R5 VD18/GPD10/LPICLK1 (io) "LCD Data Bus/General IO port", R6 VD21/GPD13/USBRXD1 (io) "LCD Data Bus/General IO port", R10 EINT11/nSS1/GPG3 (io) "External Interrupt request/SPI chip select (only for slave mode)/General IO port", R11 EINT14/SPIMOSI1/GPG6 (io) "External Interrupt request/Master data output line when SPI is in master mode/General IO port", T4 VD17/GPD9/SPIMOSI1 (io) "LCD Data Bus/General IO port", T5 VD19/GPD11/USBRXDP1 (io) "LCD Data Bus/General IO port", T9 EINT9/GPG1 (io) "External Interrupt request/General IO port", T10 EINT16/GPG8 (io) "External Interrupt request/General IO port", T11 EINT21/GPG13 (io) "External Interrupt request/Plus X-axis on-off control signal/General IO port", U5 VD23/nSS0/GPD15 (io) "LCD Data Bus/SPI chip select (only for slave mode)/General IO port", U12 EINT19/TCLK1/GPG11 (io) "External Interrupt request/External timer clock input/General IO port", U13 EINT23/GPG15 (io) "External Interrupt request/Plus Y-axis on-off control signal/General IO port"
part C pins: A2 SCKE (hiz) "SDRAM Clock Enable", B3 SCLK1 (out) "SDRAM Clock", B4 SCLK0 (out) "SDRAM Clock", B5 nBE1:nWBE1:DQM1 (hiz) "Upper Byte/Lower Byte Enable:Write Byte Enable:SDRAM Data Mask", C6 nSRAS (hiz) "SDRAM Row Address Strobe", D1 ALE/GPA18 (out) "Address Latch Enable/General Output port", D4 nBE0:nWBE0:DQM0 (hiz) "Upper Byte/Lower Byte Enable:Write Byte Enable:SDRAM Data Mask", D5 nBE2:nWBE2:DQM2 (hiz) "Upper Byte/Lower Byte Enable:Write Byte Enable:SDRAM Data Mask", D6 nSCAS (hiz) "SDRAM Column Address Strobe", E1 nFRE/GPA20 (out) "NAND Flash Read Enable/General Output port", E5 nBE3:nWBE3:DQM3 (hiz) "Upper Byte/Lower Byte Enable:Write Byte Enable:SDRAM Data Mask", F3 nFWE/GPA19 (out) "NAND Flash Write Enable/General Output port", F4 nFCE/GPA22 (out) "NAND Flash Chip Enable/General Output port", F5 CLE/GPA17 (out) "Command Latch Enable/General Output port", G6 FRnB (in) "NAND Flash Ready/Busy", G14 XTIpll (in) "Crystal Input for internal oscillator circuit", G15 XTOpll (out) "Crystal Output for internal oscillator circuit", H12 EXTCLK (in) "External clock source", H14 nBATT_FLT (in) "Probe for battery state", H15 nTRST (in) "TAP Controller Reset", H16 nRESET (in) "Reset", H17 TDI (in) "TAP Controller Data Input", J5 TOUT1/GPB1 (io) "Timer Output/General IO port", J6 TOUT0/GPB0 (io) "Timer Output/General IO port", J7 TOUT2/GPB2 (io) "Timer Output/General IO port", J9 SDDAT3/GPE10 (io) "SD receive/transmit data/General IO port", J12 PWREN (out) "2.0V core power on-off control signal", J13 TCK (in) "TAP Controller Clock", J14 TMS (in) "TAP Controller Mode Select", J16 TDO (out) "TAP Controller Data Output", K3 TOUT3/GPB3 (io) "Timer Output/General IO port", K4 TCLK0/GPB4 (io) "External timer clock input/General IO port", K8 SDCMD/GPE6 (io) "SD receive response/ transmit command/General IO port", K9 SPIMISO0/GPE11 (io) "Master data input line when SPI is in master mode/General IO port", L8 I2SSDI/AC_ADATA_IN/nSS0/GPE3 (io) "IIS-bus serial data input/SPI chip select (only for slave mode)/General IO port", L9 SPICLK0/GPE13 (io) "SPI clock/General IO port", L12 XTOrtc (out) "32.768 kHz crystal output for RTC", M8 SDDAT1/GPE8 (io) "SD receive/transmit data/General IO port", M9 IICSDA/GPE15 (io) "IIC-bus data/General IO port", M14 XTIrtc (in) "32.768 kHz crystal input for RTC", N8 SDCLK/GPE5 (io) "SD clock/General IO port", N11 DP0 (io) "DATA (+) from USB host", N12 DN1/PDN0 (io) "DATA (? from USB host/DATA (? for USB peripheral", N13 nRSTOUT/GPA21 (out) "Reset control for external device/General Output port", N14 MPLLCAP "Loop filter capacitor for main clock", P7 I2SLRCK/AC_SYNC/GPE0 (io) "IIS-bus channel select clock/General IO port", P8 SDDAT2/GPE9 (io) "SD receive/transmit data/General IO port", P9 SPIMOSI0/GPE12 (io) "Master data output line when SPI is in master mode/General IO port", P10 CLKOUT1/GPH10 (io) "Clock output signal/General IO port", P12 DN0 (io) "DATA (? from USB host", P13 OM2 (in) "OM determines how the clock is made", P15 AIN3 (in) "ADC Input", P16 AIN7/TSXP (in) "ADC Input", P17 UPLLCAP "Loop filter capacitor for USB clock", R7 I2SSCLK/AC_BIT_CLK/GPE1 (io) "IIS-bus serial clock/General IO port", R8 SDDAT0/GPE7 (io) "SD receive/transmit data/General IO port", R9 CLKOUT0/GPH9 (io) "Clock output signal/General IO port", R12 NCON (in) "NAND Flash Configuration", R14 AIN0 (in) "ADC Input", R15 AIN2 (in) "ADC Input", R16 AIN6/TSXM (in) "ADC Input", T7 CDCLK/AC_nRESET/GPE2 (io) "CODEC system clock/General IO port", T13 OM3 (in) "OM determines how the clock is made", T16 AIN4/TSYM (in) "ADC Input", T17 AIN5/TSYP (in) "ADC Input", U6 I2SSDO/AC_SDATA_OUT/I2SSDI/GPE4 (io) "IIS-bus serial data output/IIS-bus serial data input/General IO port", U8 IICSCL/GPE14 (io) "IIC-bus clock/General IO port", U14 DP1/PDP0 (io) "DATA (+) from USB host/DATA (+) for USB peripheral", U16 Vref (in) "ADC Vref", U17 AIN1 (in) "ADC Input"
part D pins: A1 VDDi(1.2V) (power), A3 VSSi (power) "Core Logic VSS", A4 VSSi (power) "Core Logic VSS", A5 VSSMOP (power) "Memory I/O VSS", A6 VDDi(1.2V) (power), A7 VSSMOP (power) "Memory I/O VSS", A9 VDDMOP(SCLK,100MHz:3.3V) (power) "Memory I/O VDD", A10 VDDi(1.2V) (power) "Core Logic VDD for CPU", A11 VSSMOP (power) "Memory I/O VSS", A12 VSSi (power) "Core Logic VSS", A15 VSSMOP (power) "Memory I/O VSS", A16 VDDi(1.2V) (power) "Core Logic VDD for CPU", B1 VSSMOP (power) "Memory I/O VSS", B6 VDDMOP(SCLK,100MHz:3.3V) (power) "Memory I/O VDD", B10 VSSi (power) "Core Logic VSS", B11 VDDi(1.2V) (power) "Core Logic VDD for CPU", B12 VDDMOP(SCLK,100MHz:3.3V) (power) "Memory I/O VDD", B13 VSSMOP (power) "Memory I/O VSS", B14 VDDMOP(SCLK,100MHz:3.3V) (power) "Memory I/O VDD", B16 VDDMOP(SCLK,100MHz:3.3V) (power) "Memory I/O VDD", C1 VDDMOP(SCLK,100MHz:3.3V) (power) "Memory I/O VDD", C17 VSSi (power), D16 VSSMOP (power) "Memory I/O VSS", D17 VSSMOP (power) "Memory I/O VSS", E2 VSSMOP (power) "Memory I/O VSS", F1 VDDi(1.2V) (power) "Core Logic VDD for CPU", F2 VSSi (power) "Core Logic VSS", F16 VDDi(1.2V) (power) "Core Logic VDD for CPU", F17 VDDMOP(SCLK,100MHz:3.3V) (power) "Memory I/O VDD", G1 VSSOP (power) "I/O port VSS", G4 VDDalive(1.2V) (power) "Reset block and port status register VDD", G17 VSSi (power), H1 VSSiarm (power) "Core Logic VSS", H11 VSSOP (power) "I/O port VSS", J1 VDDOP(3.3V) (power) "I/O port VDD (3.3V)", J2 VDDiarm(1.2V) (power) "Core Logic VDD for CPU", J17 VDDalive(1.2V) (power) "Reset block and port status register VDD", K1 VSSiarm (power) "Core Logic VSS", K12 VDDOP(3.3V) (power) "I/O port VDD (3.3V)", L2 VDDiarm(1.2V) (power) "Core Logic VDD for CPU", M12 VSSi_UPLL (power) "UPLL analog and digital VSS", M13 VDDA_UPLL(1.2V) (power) "UPLL analog and digital VDD", N1 VSSOP (power) "I/O port VSS", N15 RTCVDD(3.3V) (power) "RTC VDD (1.8 V, Not support 2.0 and 3.3V)", N16 VDDA_MPLL(1.2V) (power) "MPLL analog and digital VDD", P14 VDDA_ADC(3.3V) (power) "ADC VDD (3.3V)", R17 VSSi_MPLL (power) "MPLL analog and digital VSS", T1 VSSiarm (power) "Core Logic VSS", T2 VSSiarm (power) "Core Logic VSS", T3 VDDOP(3.3V) (power) "I/O port VDD (3.3V)", T6 VDDiarm(1.2V) (power) "Core Logic VDD for CPU", T8 VDDiarm(1.2V) (power) "Core Logic VDD for CPU", T12 VDDOP(3.3V) (power) "I/O port VDD (3.3V)", T14 VSSA_ADC (power) "ADC VSS", U1 VDDiarm(1.2V) (power) "Core Logic VDD for CPU", U2 VDDiarm(1.2V) (power) "Core Logic VDD for CPU", U3 VSSOP (power) "I/O port VSS", U4 VSSiarm (power) "Core Logic VSS", U7 VSSiarm (power) "Core Logic VSS", U9 VSSOP (power) "I/O port VSS", U10 VSSiarm (power) "Core Logic VSS", U11 VDDi(1.2V) (power), U15 VSSOP (power) "I/O port VSS"

## S3C2440核心板
designator M?
S3C2440核心板 65*45mm
footprint S3C2440核心板-A (65x45mm S3C2440核心板 淘宝有售)
footprint S3C2440核心板-B (65x45mm S3C2440核心板 淘宝有售)
part A pins: 1 VD21, 2 VD22, 3 VD20, 4 VD23, 5 VD19, 6 LCD_LPCLEV, 7 VD18, 8 LCD_LPCOE, 9 VD17, 10 LCDVSYNC, 11 VD16, 12 LCDVCLK, 13 VD15, 14 LCD_PWREN, 15 VD14, 16 LCD_LPCLEVB, 17 VD13, 18 LCDVM, 19 VD12, 20 LCDVLINE, 21 VD11, 22 LEND, 23 VD10, 24 TSXP, 25 VD9, 26 TSXM, 27 VD8, 28 TSYP, 29 VD7, 30 TSYM, 31 VD6, 32 CAMRESET, 33 VD5, 34 CAMCLKOUT, 35 VD4, 36 CAMPCLK, 37 VD3, 38 CAMHREF, 39 VD2, 40 CAMVSYNC, 41 VD1, 42 CAMDATA7, 43 VD0, 44 CAMDATA6, 45 GND, 46 CAMDATA5, 47 ADDR26, 48 CAMDATA4, 49 ADDR25, 50 CAMDATA3, 51 ADDR24, 52 CAMDATA2, 53 ADDR23, 54 CAMDATA1, 55 ADDR22, 56 CAMDATA0, 57 ADDR21, 58 nWAIT, 59 ADDR20, 60 nGCS4, 61 ADDR19, 62 DQM1, 63 ADDR18, 64 DQM0, 65 ADDR17, 66 nOE, 67 ADDR16, 68 nWE, 69 ADDR15, 70 DATA15, 71 ADDR14, 72 DATA14, 73 ADDR13, 74 DATA13, 75 ADDR12, 76 DATA12, 77 ADDR11, 78 DATA11, 79 ADDR10, 80 DATA10, 81 ADDR9, 82 DATA9, 83 ADDR8, 84 DATA8, 85 ADDR7, 86 DATA7, 87 ADDR6, 88 DATA6, 89 ADDR5, 90 DATA5, 91 ADDR4, 92 DATA4, 93 ADDR3, 94 DATA3, 95 ADDR2, 96 DATA2, 97 ADDR1, 98 DATA1, 99 ADDR0, 100 DATA0
part B pins: 101 5V, 102 GPB1, 103 5V, 104 GPB2, 105 GND, 106 GPB3, 107 GND, 108 GPB4, 109 nBATT_FLT, 110 I2SLRCK, 111 PWREN, 112 I2SSCLK, 113 RTCVDD, 114 I2SSDO, 115 AIN0, 116 I2SSDI, 117 AIN1, 118 CDCLK, 119 AIN2, 120 DP1, 121 AIN3, 122 DN1, 123 IICSDA, 124 DN0, 125 IICSCL, 126 DP0, 127 RXD2, 128 GND, 129 TXD2, 130 SDDAT3, 131 RXD1, 132 SDDAT1, 133 TXD1, 134 SDDAT2, 135 UEXTCLK, 136 SDDAT3, 137 SPICLK0, 138 SDCLK, 139 SPIMOSI0, 140 SDCMD, 141 SPIMISO0, 142 GND, 143 EINT10, 144 EINT0, 145 EINT11, 146 EINT1, 147 EINT13, 148 EINT2, 149 EINT14, 150 EINT3, 151 EINT15, 152 EINT4, 153 EINT16, 154 EINT5, 155 EINT17, 156 EINT6, 157 EINT18, 158 EINT7, 159 EINT19, 160 EINT8, 161 EINT20, 162 EINT9, 163 GND, 164 TCK, 165 GND, 166 nTRST, 167 nRTS0, 168 TDO, 169 nCTS0, 170 TDI, 171 RXD0, 172 TMS, 173 TXD0, 174 nRSTOUT, 175 nSCS1, 176 nRESET, 177 nGCS1F, 178 CLKOUT1, 179 nGCS2, 180 CLKOUT0, 181 nGCS3, 182 GPB0, 183 nGCS5, 184 DQM3, 185 DQM2, 186 nXDREQ1, 187 nXDACK1, 188 nXBACK, 189 nXDREQ0, 190 nXDACK0, 191 nXBREQ, 192 NC, 193 GND, 194 GND, 195 GND, 196 GND, 197 3V3, 198 3V3, 199 3V3, 200 3V3

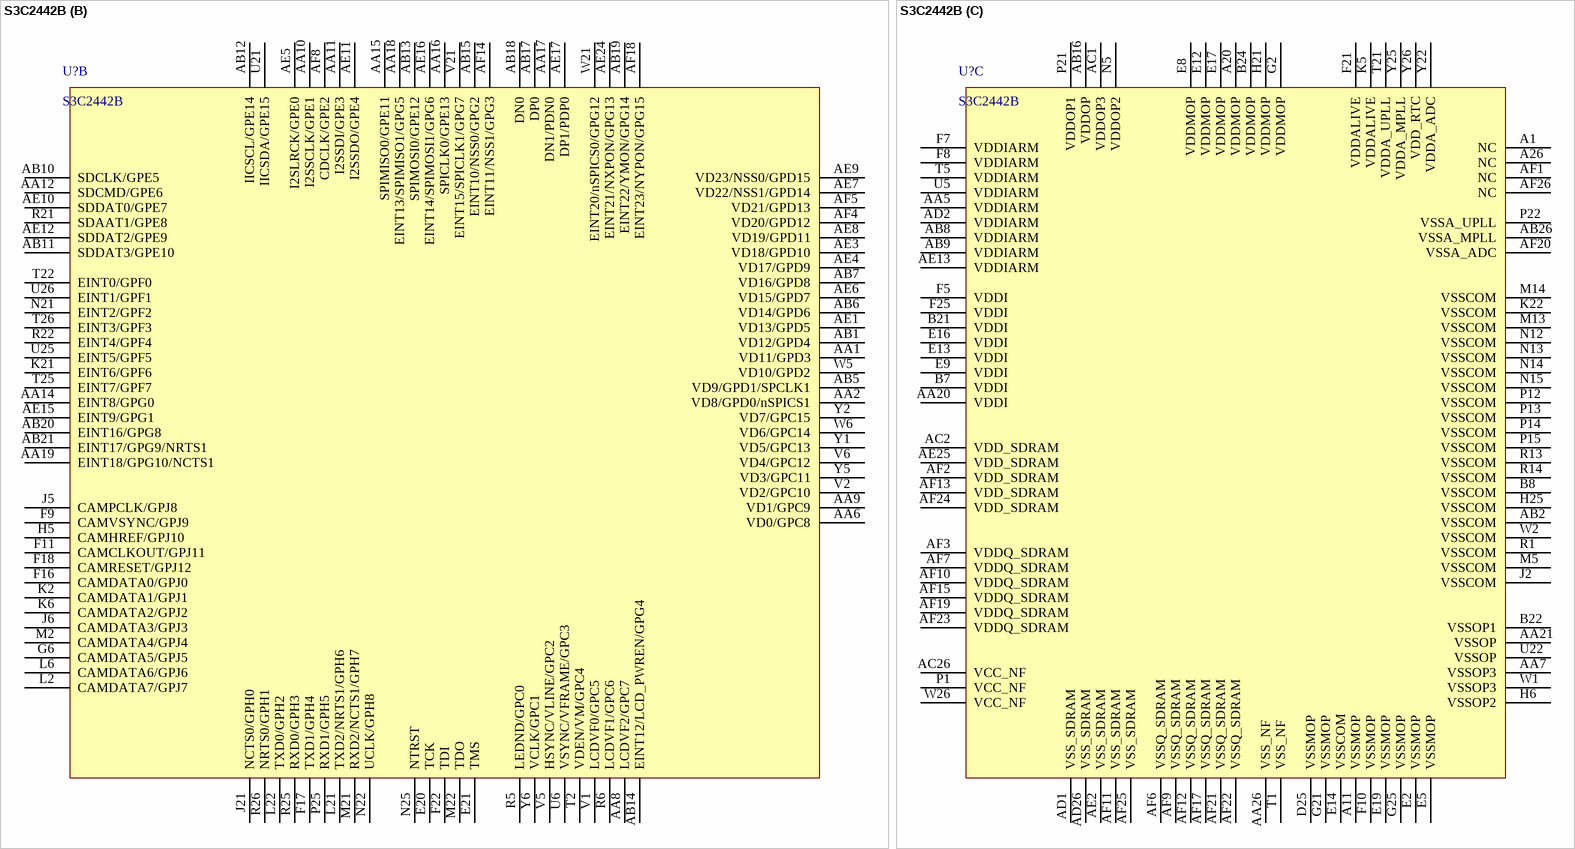
[diagram p19: symbol S3C2442B]

## S3C2442B
designator U?
三星ARM9系列处理器
footprint BGA50P14x14-332
part A pins: A2 ADDR10, A3 ADDR13, A4 NGCS5/GPA16, A5 NBE1, A6 NSRAS, A7 NSCAS, A8 ADDR2, A9 ADDR7, A10 ADDR9, A12 ADDR11, A13 ADDR14, A14 ADDR24/GPA9, A15 DATA2, A16 DATA4, A17 DATA0, A18 DATA5, A19 DATA6, A21 DATA7, A22 DATA9, A23 DATA10, A24 DATA16, A25 DATA12, AA13 CLKOUT0/nSPICS0/GPH9, AA22 OM2, AA25 AIN5/TSYP, AB22 OM1, AB25 AIN7/TSXP, AC25 AIN3, AD25 AIN2, AE14 CLKOUT1/GPH10, AE18 NRSTOUT/GPA21, AE19 OM3, AE20 AIN0, AE21 VREF, AE22 AIN1, AE23 OM0, AE26 AIN4/TSYM, AF16 EINT19/TCLK1/GPG11, B1 ADDR6, B2 ADDR8, B3 SCKE, B4 NGCS6, B5 NGCS2/GPA13, B6 NBE3, B9 ADDR4, B10 NOE, B11 ADDR1, B12 ADDR12, B13 ADDR15, B14 ADDR23/GPA8, B15 ADDR18/GPA3, B16 ADDR21/GPA6, B17 ADDR26/GPA11, B18 DATA3, B19 DATA1, B20 DATA8, B23 DATA11, B25 DATA14, B26 DATA13, C1 ADDR5, C2 NWAIT, C25 DATA19, C26 DATA15, D1 ADDR3, D2 NGCS4/GPA15, D26 DATA17, E1 NBE2, E6 NGCS3/GPA14, E7 NGCS1/GPA12, E10 SCLK1, E11 ADDR0/GPA0, E15 ADDR16/GPA1, E18 ADDR25/GPA10, E22 XTOPLL, E25 DATA21, E26 DATA18, F1 NBE0, F2 NGCS7, F6 NGCS0, F12 ADDR20/GPA5, F13 ADDR19/GPA4, F14 ADDR17/GPA2, F15 ADDR22/GPA7, F19 TOUT1/GPB1, F20 PWREN, F26 DATA20, G1 SCLK0, G5 NFCE/GPA22, G22 EXTCLK, G26 DATA22, H1 ALE/GPA18, H2 CLE/GPA17, H22 NRESET, H26 DATA26, J1 NFWE/GPA19, J22 TOUT2/GPB2, J25 DATA24, J26 DATA23, K1 NFRE/GPA20, K25 DATA31, K26 DATA27, L1 FRNB, L5 TOUT0/GPB0, L25 XTIPLL, L26 DATA25, M1 ~{CE}, M6 NXBACK/GPB5, M25 BATT_FLT, M26 DATA29, N1 NWE, N2 TOUT3/GPB3, N6 NXDACK1/GPB7, N26 DATA28, P2 TCLK0/GPB4, P5 NXBREQ/GPB6, P6 NXDREQ1/GPB8, P26 DATA30, R2 NXDACK0/GPB9, T6 NXDREQ0/GPB10, U1 ~{WP}, U2 ~{CS}, V22 AIN6/TSXM, V25 MPLLCAP, V26 XTIRTC, W22 XTORTC, W25 UPLLCAP, Y21 NCON0
part B pins: AA1 VD11/GPD3, AA2 VD8/GPD0/nSPICS1, AA6 VD0/GPC8, AA8 LCDVF2/GPC7, AA9 VD1/GPC9, AA10 I2SSCLK/GPE1, AA11 I2SSDI/GPE3, AA12 SDCMD/GPE6, AA14 EINT8/GPG0, AA15 SPIMISO0/GPE11, AA16 SPICLK0/GPE13, AA17 DN1/PDN0, AA18 EINT13/SPIMISO1/GPG5, AA19 EINT18/GPG10/NCTS1, AB1 VD12/GPD4, AB5 VD9/GPD1/SPCLK1, AB6 VD14/GPD6, AB7 VD16/GPD8, AB10 SDCLK/GPE5, AB11 SDDAT3/GPE10, AB12 IICSCL/GPE14, AB13 SPIMOSI0/GPE12, AB14 EINT12/LCD_PWREN/GPG4, AB15 EINT10/NSS0/GPG2, AB17 DP0, AB18 DN0, AB19 EINT22/YMON/GPG14, AB20 EINT16/GPG8, AB21 EINT17/GPG9/NRTS1, AE1 VD13/GPD5, AE3 VD18/GPD10, AE4 VD17/GPD9, AE5 I2SLRCK/GPE0, AE6 VD15/GPD7, AE7 VD22/NSS1/GPD14, AE8 VD19/GPD11, AE9 VD23/NSS0/GPD15, AE10 SDDAT0/GPE7, AE11 I2SSDO/GPE4, AE12 SDDAT2/GPE9, AE15 EINT9/GPG1, AE16 EINT14/SPIMOSI1/GPG6, AE17 DP1/PDP0, AE24 EINT21/NXPON/GPG13, AF4 VD20/GPD12, AF5 VD21/GPD13, AF8 CDCLK/GPE2, AF14 EINT11/NSS1/GPG3, AF18 EINT23/NYPON/GPG15, E20 TCK, E21 TMS, F9 CAMVSYNC/GPJ9, F11 CAMCLKOUT/GPJ11, F16 CAMDATA0/GPJ0, F17 TXD1/GPH4, F18 CAMRESET/GPJ12, F22 TDI, G6 CAMDATA5/GPJ5, H5 CAMHREF/GPJ10, J5 CAMPCLK/GPJ8, J6 CAMDATA3/GPJ3, J21 NCTS0/GPH0, K2 CAMDATA1/GPJ1, K6 CAMDATA2/GPJ2, K21 EINT6/GPF6, L2 CAMDATA7/GPJ7, L6 CAMDATA6/GPJ6, L21 TXD2/NRTS1/GPH6, L22 TXD0/GPH2, M2 CAMDATA4/GPJ4, M21 RXD2/NCTS1/GPH7, M22 TDO, N21 EINT2/GPF2, N22 UCLK/GPH8, N25 NTRST, P25 RXD1/GPH5, R5 LEDND/GPC0, R6 LCDVF1/GPC6, R21 SDAAT1/GPE8, R22 EINT4/GPF4, R25 RXD0/GPH3, R26 NRTS0/GPH1, T2 VDEN/VM/GPC4, T22 EINT0/GPF0, T25 EINT7/GPF7, T26 EINT3/GPF3, U6 VSYNC/VFRAME/GPC3, U21 IICSDA/GPE15, U25 EINT5/GPF5, U26 EINT1/GPF1, V1 LCDVF0/GPC5, V2 VD2/GPC10, V5 HSYNC/VLINE/GPC2, V6 VD4/GPC12, V21 EINT15/SPICLK1/GPG7, W5 VD10/GPD2, W6 VD6/GPC14, W21 EINT20/nSPICS0/GPG12, Y1 VD5/GPC13, Y2 VD7/GPC15, Y5 VD3/GPC11, Y6 VCLK/GPC1
part C pins: A1 NC, A11 VSSMOP, A20 VDDMOP, A26 NC, AA5 VDDIARM, AA7 VSSOP3, AA20 VDDI, AA21 VSSOP, AA26 VSS_NF, AB2 VSSCOM, AB8 VDDIARM, AB9 VDDIARM, AB16 VDDOP, AB26 VSSA_MPLL, AC1 VDDOP3, AC2 VDD_SDRAM, AC26 VCC_NF, AD1 VSS_SDRAM, AD2 VDDIARM, AD26 VSS_SDRAM, AE2 VSS_SDRAM, AE13 VDDIARM, AE25 VDD_SDRAM, AF1 NC, AF2 VDD_SDRAM, AF3 VDDQ_SDRAM, AF6 VSSQ_SDRAM, AF7 VDDQ_SDRAM, AF9 VSSQ_SDRAM, AF10 VDDQ_SDRAM, AF11 VSS_SDRAM, AF12 VSSQ_SDRAM, AF13 VDD_SDRAM, AF15 VDDQ_SDRAM, AF17 VSSQ_SDRAM, AF19 VDDQ_SDRAM, AF20 VSSA_ADC, AF21 VSSQ_SDRAM, AF22 VSSQ_SDRAM, AF23 VDDQ_SDRAM, AF24 VDD_SDRAM, AF25 VSS_SDRAM, AF26 NC, B7 VDDI, B8 VSSCOM, B21 VDDI, B22 VSSOP1, B24 VDDMOP, D25 VSSMOP, E2 VSSMOP, E5 VSSMOP, E8 VDDMOP, E9 VDDI, E12 VDDMOP, E13 VDDI, E14 VSSCOM, E16 VDDI, E17 VDDMOP, E19 VSSMOP, F5 VDDI, F7 VDDIARM, F8 VDDIARM, F10 VSSMOP, F21 VDDALIVE, F25 VDDI, G2 VDDMOP, G21 VSSMOP, G25 VSSMOP, H6 VSSOP2, H21 VDDMOP, H25 VSSCOM, J2 VSSCOM, K5 VDDALIVE, K22 VSSCOM, M5 VSSCOM, M13 VSSCOM, M14 VSSCOM, N5 VDDOP2, N12 VSSCOM, N13 VSSCOM, N14 VSSCOM, N15 VSSCOM, P1 VCC_NF, P12 VSSCOM, P13 VSSCOM, P14 VSSCOM, P15 VSSCOM, P21 VDDOP1, P22 VSSA_UPLL, R1 VSSCOM, R13 VSSCOM, R14 VSSCOM, T1 VSS_NF, T5 VDDIARM, T21 VDDA_UPLL, U5 VDDIARM, U22 VSSOP, W1 VSSOP3, W2 VSSCOM, W26 VCC_NF, Y22 VDDA_ADC, Y25 VDDA_MPLL, Y26 VDD_RTC

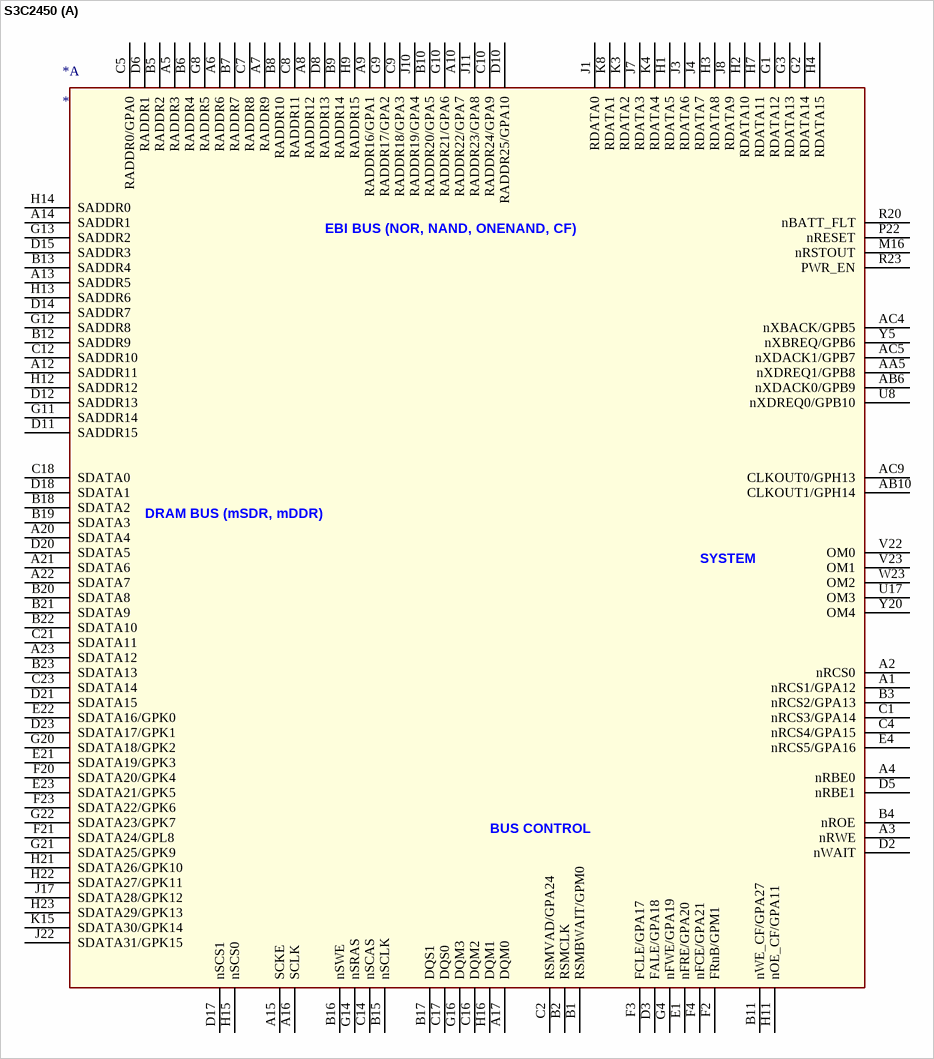
[diagram p20: symbol S3C2450]

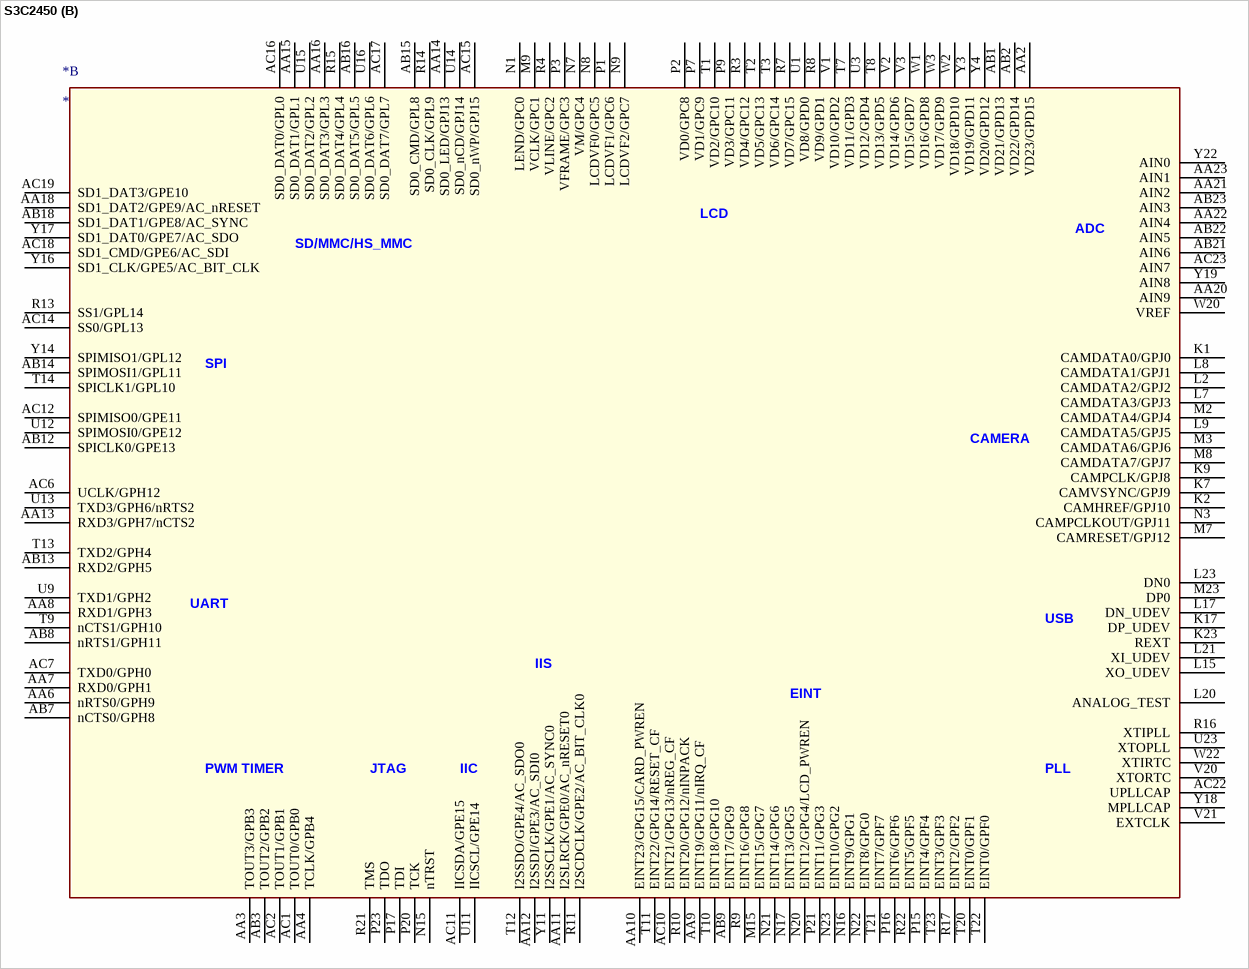
[diagram p21: symbol S3C2450]

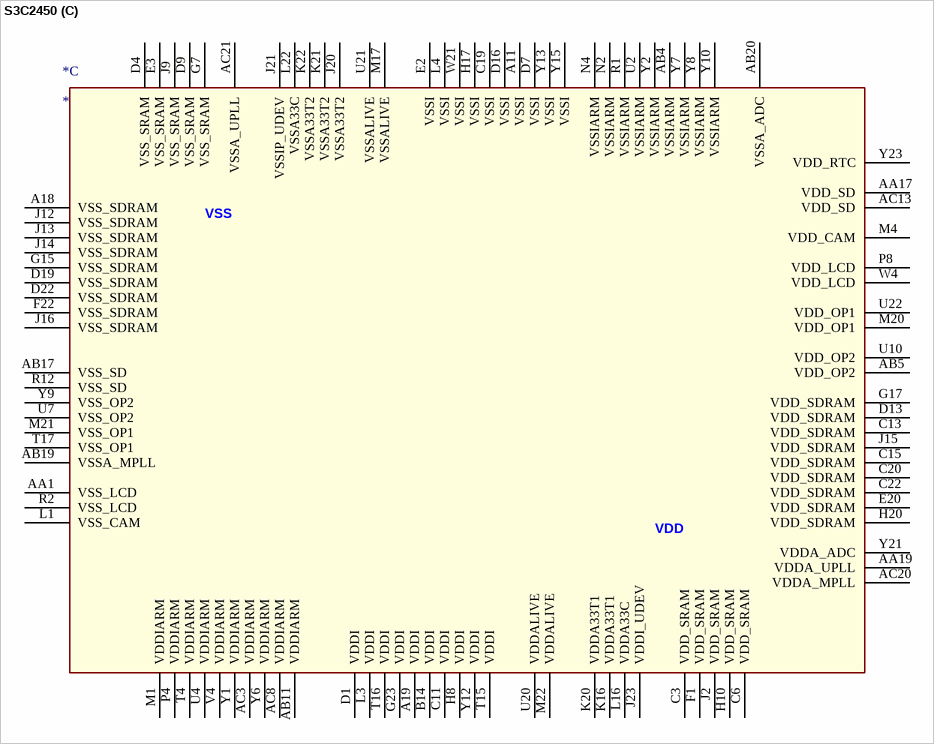
[diagram p22: symbol S3C2450]

## S3C2450
designator *
footprint BGA50P13X13-400
part A pins: A1 nRCS1/GPA12, A2 nRCS0, A3 nRWE, A4 nRBE0, A5 RADDR3, A6 RADDR6, A7 RADDR9, A8 RADDR12, A9 RADDR16/GPA1, A10 RADDR22/GPA7, A12 SADDR11, A13 SADDR5, A14 SADDR1, A15 SCKE, A16 SCLK, A17 DQM0, A20 SDATA4, A21 SDATA6, A22 SDATA7, A23 SDATA12, AA5 nXDREQ1/GPB8, AB6 nXDACK0/GPB9, AB10 CLKOUT1/GPH14, AC4 nXBACK/GPB5, AC5 nXDACK1/GPB7, AC9 CLKOUT0/GPH13, B1 RSMBWAIT/GPM0, B2 RSMCLK, B3 nRCS2/GPA13, B4 nROE, B5 RADDR2, B6 RADDR4, B7 RADDR7, B8 RADDR10, B9 RADDR14, B10 RADDR20/GPA5, B11 nWE_CF/GPA27, B12 SADDR9, B13 SADDR4, B15 nSCLK, B16 nSWE, B17 DQS1, B18 SDATA2, B19 SDATA3, B20 SDATA8, B21 SDATA9, B22 SDATA10, B23 SDATA13, C1 nRCS3/GPA14, C2 RSMVAD/GPA24, C4 nRCS4/GPA15, C5 RADDR0/GPA0, C7 RADDR8, C8 RADDR11, C9 RADDR18/GPA3, C10 RADDR24/GPA9, C12 SADDR10, C14 nSCAS, C16 DQM2, C17 DQS0, C18 SDATA0, C21 SDATA11, C23 SDATA14, D2 nWAIT, D3 FALE/GPA18, D5 nRBE1, D6 RADDR1, D8 RADDR13, D10 RADDR25/GPA10, D11 SADDR15, D12 SADDR13, D14 SADDR7, D15 SADDR3, D17 nSCS1, D18 SDATA1, D20 SDATA5, D21 SDATA15, D23 SDATA17/GPK1, E1 nFRE/GPA20, E4 nRCS5/GPA16, E21 SDATA19/GPK3, E22 SDATA16/GPK0, E23 SDATA21/GPK5, F2 FRnB/GPM1, F3 FCLE/GPA17, F4 nFCE/GPA21, F20 SDATA20/GPK4, F21 SDATA24/GPL8, F23 SDATA22/GPK6, G1 RDATA12, G2 RDATA14, G3 RDATA13, G4 nFWE/GPA19, G8 RADDR5, G9 RADDR17/GPA2, G10 RADDR21/GPA6, G11 SADDR14, G12 SADDR8, G13 SADDR2, G14 nSRAS, G16 DQM3, G20 SDATA18/GPK2, G21 SDATA25/GPK9, G22 SDATA23/GPK7, H1 RDATA5, H2 RDATA10, H3 RDATA8, H4 RDATA15, H7 RDATA11, H9 RADDR15, H11 nOE_CF/GPA11, H12 SADDR12, H13 SADDR6, H14 SADDR0, H15 nSCS0, H16 DQM1, H21 SDATA26/GPK10, H22 SDATA27/GPK11, H23 SDATA29/GPK13, J1 RDATA0, J3 RDATA6, J4 RDATA7, J7 RDATA3, J8 RDATA9, J10 RADDR19/GPA4, J11 RADDR23/GPA8, J17 SDATA28/GPK12, J22 SDATA31/GPK15, K3 RDATA2, K4 RDATA4, K8 RDATA1, K15 SDATA30/GPK14, M16 nRSTOUT, P22 nRESET, R20 nBATT_FLT, R23 PWR_EN, U8 nXDREQ0/GPB10, U17 OM3, V22 OM0, V23 OM1, W23 OM2, Y5 nXBREQ/GPB6, Y20 OM4
part B pins: AA2 VD23/GPD15, AA3 TOUT3/GPB3, AA4 TCLK/GPB4, AA6 nRTS0/GPH9, AA7 RXD0/GPH1, AA8 RXD1/GPH3, AA9 EINT19/GPG11/nIRQ_CF, AA10 EINT23/GPG15/CARD_PWREN, AA11 I2SLRCK/GPE0/AC_nRESET0, AA12 I2SSDI/GPE3/AC_SDI0, AA13 RXD3/GPH7/nCTS2, AA14 SD0_LED/GPJ13, AA15 SD0_DAT1/GPL1, AA16 SD0_DAT3/GPL3, AA18 SD1_DAT2/GPE9/AC_nRESET, AA20 AIN9, AA21 AIN2, AA22 AIN4, AA23 AIN1, AB1 VD21/GPD13, AB2 VD22/GPD14, AB3 TOUT2/GPB2, AB7 nCTS0/GPH8, AB8 nRTS1/GPH11, AB9 EINT17/GPG9, AB12 SPICLK0/GPE13, AB13 RXD2/GPH5, AB14 SPIMOSI1/GPL11, AB15 SD0_CMD/GPL8, AB16 SD0_DAT5/GPL5, AB18 SD1_DAT1/GPE8/AC_SYNC, AB21 AIN6, AB22 AIN5, AB23 AIN3, AC1 TOUT0/GPB0, AC2 TOUT1/GPB1, AC6 UCLK/GPH12, AC7 TXD0/GPH0, AC10 EINT21/GPG13/nREG_CF, AC11 IICSDA/GPE15, AC12 SPIMISO0/GPE11, AC14 SS0/GPL13, AC15 SD0_nWP/GPJ15, AC16 SD0_DAT0/GPL0, AC17 SD0_DAT7/GPL7, AC18 SD1_CMD/GPE6/AC_SDI, AC19 SD1_DAT3/GPE10, AC22 UPLLCAP, AC23 AIN7, K1 CAMDATA0/GPJ0, K2 CAMHREF/GPJ10, K7 CAMVSYNC/GPJ9, K9 CAMPCLK/GPJ8, K17 DP_UDEV, K23 REXT, L2 CAMDATA2/GPJ2, L7 CAMDATA3/GPJ3, L8 CAMDATA1/GPJ1, L9 CAMDATA5/GPJ5, L15 XO_UDEV, L17 DN_UDEV, L20 ANALOG_TEST, L21 XI_UDEV, L23 DN0, M2 CAMDATA4/GPJ4, M3 CAMDATA6/GPJ6, M7 CAMRESET/GPJ12, M8 CAMDATA7/GPJ7, M9 VCLK/GPC1, M15 EINT15/GPG7, M23 DP0, N1 LEND/GPC0, N3 CAMPCLKOUT/GPJ11, N7 VM/GPC4, N8 LCDVF0/GPC5, N9 LCDVF2/GPC7, N15 nTRST, N16 EINT9/GPG1, N17 EINT13/GPG5, N20 EINT12/GPG4/LCD_PWREN, N21 EINT14/GPG6, N22 EINT8/GPG0, N23 EINT10/GPG2, P1 LCDVF1/GPC6, P2 VD0/GPC8, P3 VFRAME/GPC3, P7 VD1/GPC9, P9 VD3/GPC11, P15 EINT4/GPF4, P16 EINT6/GPF6, P17 TDI, P20 TCK, P21 EINT11/GPG3, P23 TDO, R3 VD4/GPC12, R4 VLINE/GPC2, R7 VD7/GPC15, R8 VD9/GPD1, R9 EINT16/GPG8, R10 EINT20/GPG12/nINPACK, R11 I2SCDCLK/GPE2/AC_BIT_CLK0, R13 SS1/GPL14, R14 SD0_CLK/GPL9, R15 SD0_DAT4/GPL4, R16 XTIPLL, R17 EINT2/GPF2, R21 TMS, R22 EINT5/GPF5, T1 VD2/GPC10, T2 VD5/GPC13, T3 VD6/GPC14, T7 VD11/GPD3, T8 VD13/GPD5, T9 nCTS1/GPH10, T10 EINT18/GPG10, T11 EINT22/GPG14/RESET_CF, T12 I2SSDO/GPE4/AC_SDO0, T13 TXD2/GPH4, T14 SPICLK1/GPL10, T20 EINT0/GPF1, T21 EINT7/GPF7, T22 EINT0/GPF0, T23 EINT3/GPF3, U1 VD8/GPD0, U3 VD12/GPD4, U9 TXD1/GPH2, U11 IICSCL/GPE14, U12 SPIMOSI0/GPE12, U13 TXD3/GPH6/nRTS2, U14 SD0_nCD/GPJ14, U15 SD0_DAT2/GPL2, U16 SD0_DAT6/GPL6, U23 XTOPLL, V1 VD10/GPD2, V2 VD14/GPD6, V3 VD15/GPD7, V20 XTORTC, V21 EXTCLK, W1 VD16/GPD8, W2 VD18/GPD10, W3 VD17/GPD9, W20 VREF, W22 XTIRTC, Y3 VD19/GPD11, Y4 VD20/GPD12, Y11 I2SSCLK/GPE1/AC_SYNC0, Y14 SPIMISO1/GPL12, Y16 SD1_CLK/GPE5/AC_BIT_CLK, Y17 SD1_DAT0/GPE7/AC_SDO, Y18 MPLLCAP, Y19 AIN8, Y22 AIN0
part C pins: A11 VSSI (power), A18 VSS_SDRAM (power), A19 VDDI (power), AA1 VSS_LCD (power), AA17 VDD_SD (power), AA19 VDDA_UPLL (power), AB4 VSSIARM (power), AB5 VDD_OP2 (power), AB11 VDDIARM (power), AB17 VSS_SD (power), AB19 VSSA_MPLL (power), AB20 VSSA_ADC (power), AC3 VDDIARM (power), AC8 VDDIARM (power), AC13 VDD_SD (power), AC20 VDDA_MPLL (power), AC21 VSSA_UPLL (power), B14 VDDI (power), C3 VDD_SRAM (power), C6 VDD_SRAM (power), C11 VDDI (power), C13 VDD_SDRAM (power), C15 VDD_SDRAM (power), C19 VSSI (power), C20 VDD_SDRAM (power), C22 VDD_SDRAM (power), D1 VDDI (power), D4 VSS_SRAM (power), D7 VSSI (power), D9 VSS_SRAM (power), D13 VDD_SDRAM (power), D16 VSSI (power), D19 VSS_SDRAM (power), D22 VSS_SDRAM (power), E2 VSSI (power), E3 VSS_SRAM (power), E20 VDD_SDRAM (power), F1 VDD_SRAM (power), F22 VSS_SDRAM (power), G7 VSS_SRAM (power), G15 VSS_SDRAM (power), G17 VDD_SDRAM (power), G23 VDDI (power), H8 VDDI (power), H10 VDD_SRAM (power), H17 VSSI (power), H20 VDD_SDRAM (power), J2 VDD_SRAM (power), J9 VSS_SRAM (power), J12 VSS_SDRAM (power), J13 VSS_SDRAM (power), J14 VSS_SDRAM (power), J15 VDD_SDRAM (power), J16 VSS_SDRAM (power), J20 VSSA33T2 (power), J21 VSSIP_UDEV (power), J23 VDDI_UDEV (power), K16 VDDA33T1 (power), K20 VDDA33T1 (power), K21 VSSA33T2 (power), K22 VSSA33T2 (power), L1 VSS_CAM (power), L3 VDDI (power), L4 VSSI (power), L16 VDDA33C (power), L22 VSSA33C (power), M1 VDDIARM (power), M4 VDD_CAM (power), M17 VSSALIVE (power), M20 VDD_OP1 (power), M21 VSS_OP1 (power), M22 VDDALIVE (power), N2 VSSIARM (power), N4 VSSIARM (power), P4 VDDIARM (power), P8 VDD_LCD (power), R1 VSSIARM (power), R2 VSS_LCD (power), R12 VSS_SD (power), T4 VDDIARM (power), T15 VDDI (power), T16 VDDI (power), T17 VSS_OP1 (power), U2 VSSIARM (power), U4 VDDIARM (power), U7 VSS_OP2 (power), U10 VDD_OP2 (power), U20 VDDALIVE (power), U21 VSSALIVE (power), U22 VDD_OP1 (power), V4 VDDIARM (power), W4 VDD_LCD (power), W21 VSSI (power), Y1 VDDIARM (power), Y2 VSSIARM (power), Y6 VDDIARM (power), Y7 VSSIARM (power), Y8 VSSIARM (power), Y9 VSS_OP2 (power), Y10 VSSIARM (power), Y12 VDDI (power), Y13 VSSI (power), Y15 VSSI (power), Y21 VDDA_ADC (power), Y23 VDD_RTC (power)
part A text: EBI BUS (NOR, NAND, ONENAND, CF); DRAM BUS (mSDR, mDDR); SYSTEM; BUS CONTROL
part B text: LCD; ADC; SD/MMC/HS_MMC; SPI; CAMERA; UART; USB; IIS; EINT; PWM TIMER; JTAG; IIC; PLL
part C text: VSS; VDD

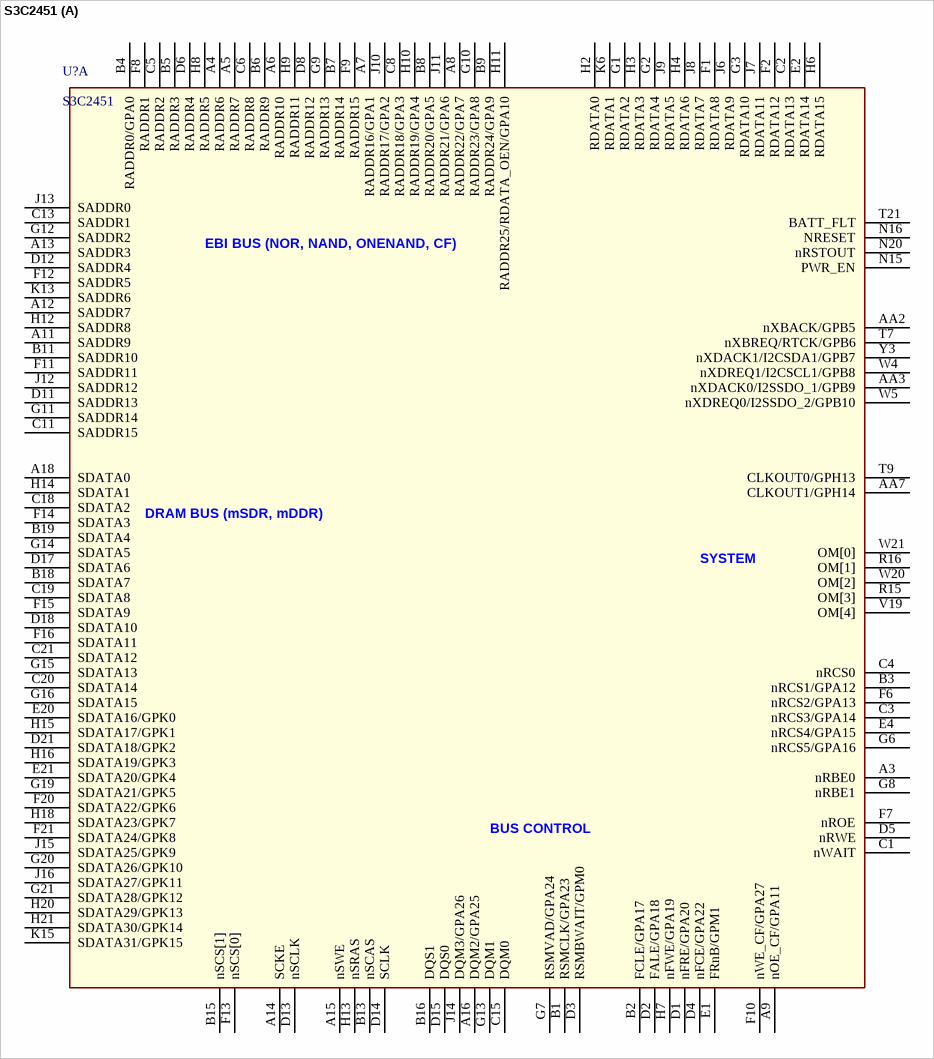
[diagram p23: symbol S3C2451]

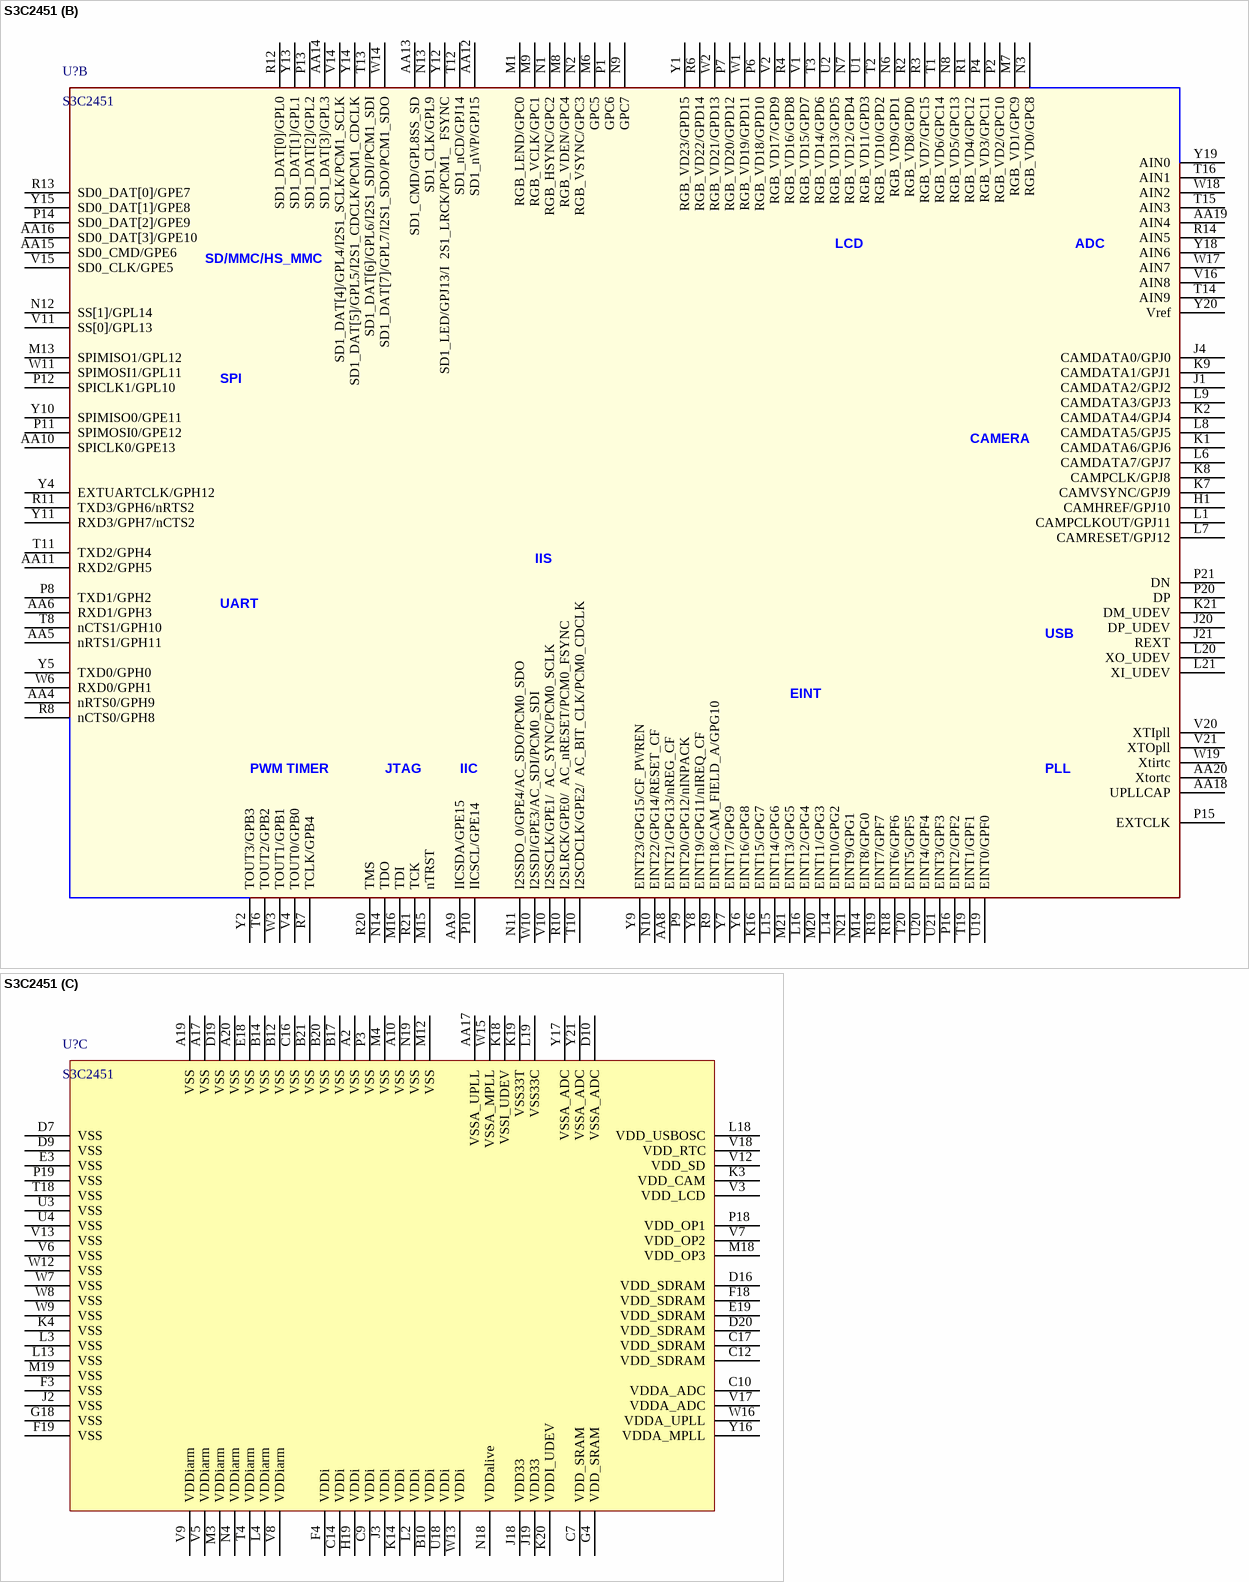
[diagram p24: symbol S3C2451]